# Altium schematic symbol library MCU_Microchip_ATmega.SchLib: 440 symbols (part 8 of 9)
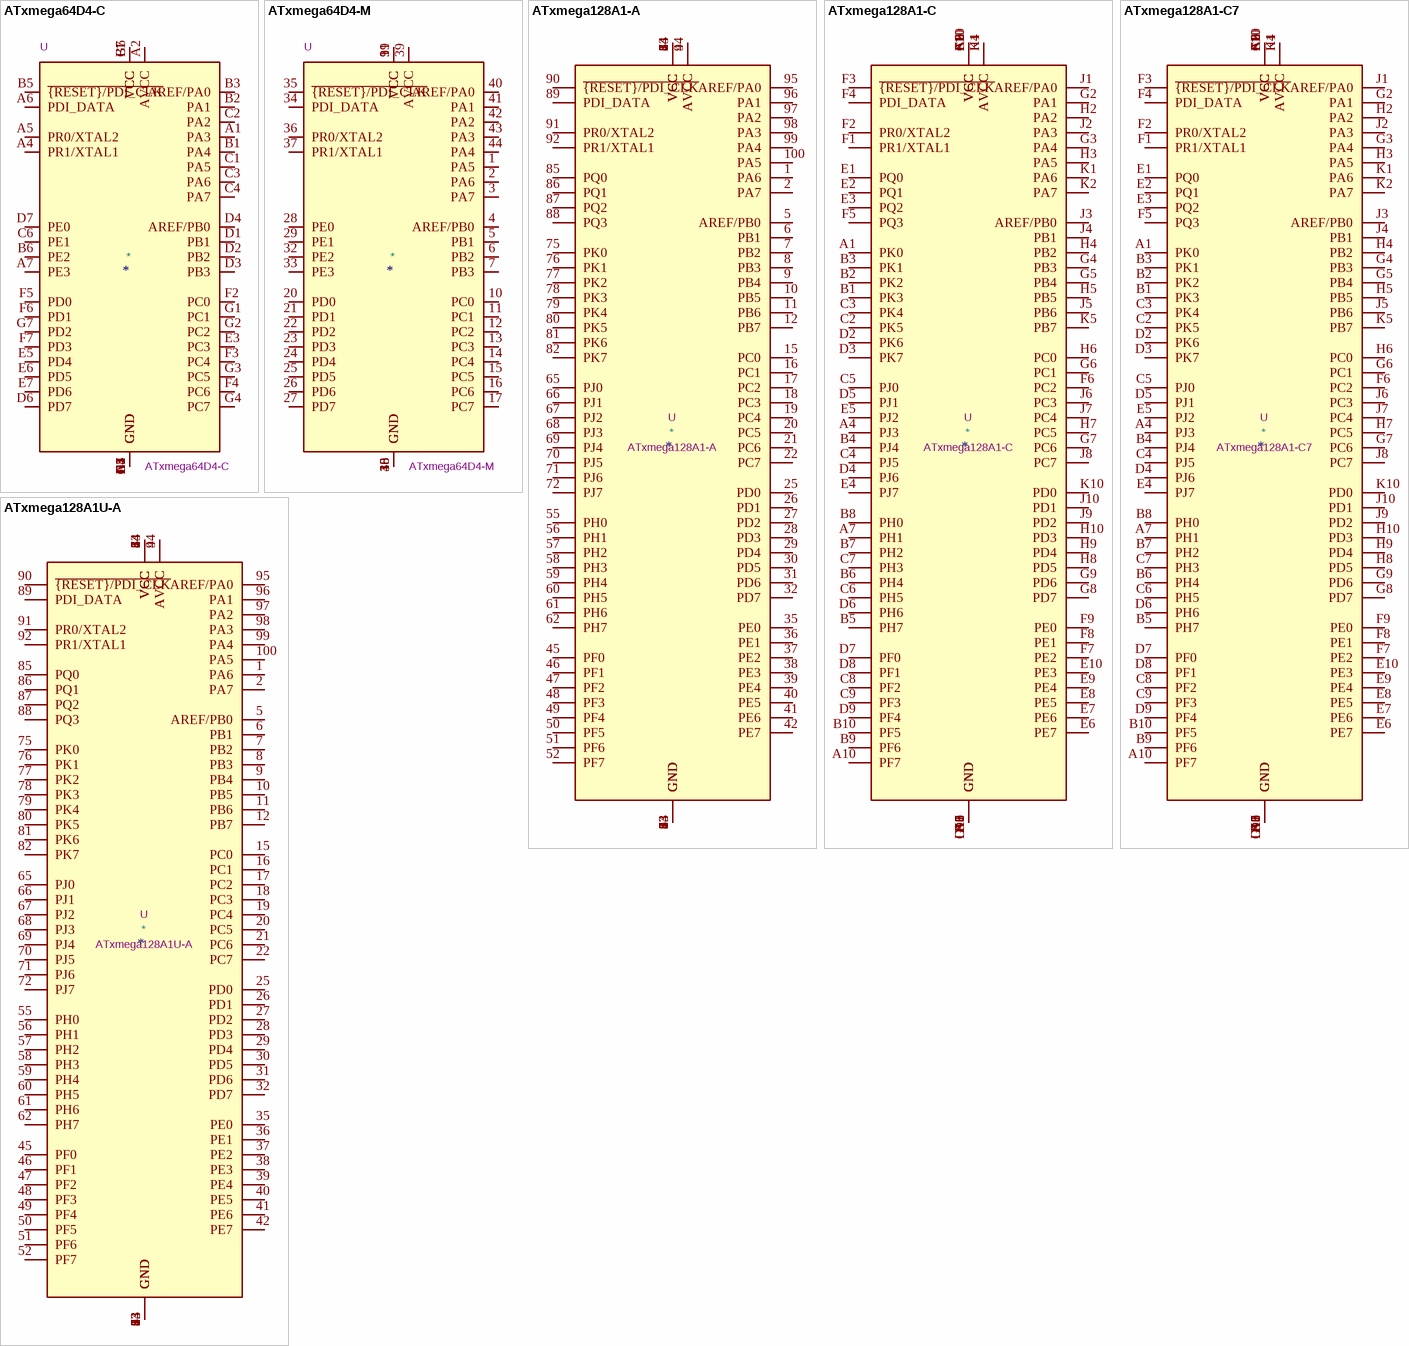
[diagram p47: symbols ATxmega64D4-C to ATxmega128A1U-A]

## ATxmega128A1-C7
designator *  value ATxmega128A1-C7  Reference: U
32MHz, 128kB Flash, 8kB Boot, 8kB SRAM, 2kB EEPROM, JTAG, VFBGA-100; ki_keywords: AVR 8/16bit Microcontroller XMegaAVR; ki_fp_filters: VFBGA*7.0x7.0mm*Layout10x10*P0.65mm*; Footprint: Package_BGA:VFBGA-100_7.0x7.0mm_Layout10x10_P0.65mm; Datasheet: http://ww1.microchip.com/downloads/en/DeviceDoc/Atmel-8067-8-and-16-bit-AVR-Microcontrollers-ATxmega64A1-ATxmega128A1_Datasheet.pdf; Description_: 32MHz, 128kB Flash, 8kB Boot, 8kB SRAM, 2kB EEPROM, JTAG, VFBGA-100
pins: A1 PK0, A2 VCC, A3 GND, A4 PJ3, A5 VCC, A6 GND, A7 PH1, A8 GND, A9 VCC, A10 PF7, B1 PK3, B2 PK2, B3 PK1, B4 PJ4, B5 PH7, B6 PH4, B7 PH2, B8 PH0, B9 PF6, B10 PF5, C1 VCC, C2 PK5, C3 PK4, C4 PJ5, C5 PJ0, C6 PH5, C7 PH3, C8 PF2, C9 PF3, C10 VCC, D1 GND, D2 PK6, D3 PK7, D4 PJ6, D5 PJ1, D6 PH6, D7 PF0, D8 PF1, D9 PF4, D10 GND, E1 PQ0, E2 PQ1, E3 PQ2, E4 PJ7, E5 PJ2, E6 PE7, E7 PE6, E8 PE5, E9 PE4, E10 PE3, F1 PR1/XTAL1, F2 PR0/XTAL2, F3 ~{{RESET}/PDI_CLK}, F4 PDI_DATA, F5 PQ3, F6 PC2, F7 PE2, F8 PE1, F9 PE0, F10 VCC, G1 GND, G2 PA1, G3 PA4, G4 PB3, G5 PB4, G6 PC1, G7 PC6, G8 PD7, G9 PD6, G10 GND, H1 AVCC, H2 PA2, H3 PA5, H4 PB2, H5 PB5, H6 PC0, H7 PC5, H8 PD5, H9 PD4, H10 PD3, J1 AREF/PA0, J2 PA3, J3 AREF/PB0, J4 PB1, J5 PB6, J6 PC3, J7 PC4, J8 PC7, J9 PD2, J10 PD1, K1 PA6, K2 PA7, K3 GND, K4 AVCC, K5 PB7, K6 VCC, K7 GND, K8 VCC, K9 GND, K10 PD0

## ATxmega128A1U-A
designator *  value ATxmega128A1U-A  Reference: U
32MHz, 128kB Flash, 8kB Boot, 8kB SRAM, 2kB EEPROM, JTAG, USB, TQFP-100; ki_keywords: AVR 8/16bit Microcontroller XMegaAVR; ki_fp_filters: TQFP*14x14mm*P0.5mm*; Footprint: Package_QFP:TQFP-100_14x14mm_P0.5mm; Datasheet: http://ww1.microchip.com/downloads/en/DeviceDoc/Atmel-8385-8-and-16-bit-AVR-Microcontroller-ATxmega64A1U-ATxmega128A1U_datasheet.pdf; Description_: 32MHz, 128kB Flash, 8kB Boot, 8kB SRAM, 2kB EEPROM, JTAG, USB, TQFP-100
pins: 1 PA6, 2 PA7, 3 GND, 4 AVCC, 5 AREF/PB0, 6 PB1, 7 PB2, 8 PB3, 9 PB4, 10 PB5, 11 PB6, 12 PB7, 13 GND, 14 VCC, 15 PC0, 16 PC1, 17 PC2, 18 PC3, 19 PC4, 20 PC5, 21 PC6, 22 PC7, 23 GND, 24 VCC, 25 PD0, 26 PD1, 27 PD2, 28 PD3, 29 PD4, 30 PD5, 31 PD6, 32 PD7, 33 GND, 34 VCC, 35 PE0, 36 PE1, 37 PE2, 38 PE3, 39 PE4, 40 PE5, 41 PE6, 42 PE7, 43 GND, 44 VCC, 45 PF0, 46 PF1, 47 PF2, 48 PF3, 49 PF4, 50 PF5, 51 PF6, 52 PF7, 53 GND, 54 VCC, 55 PH0, 56 PH1, 57 PH2, 58 PH3, 59 PH4, 60 PH5, 61 PH6, 62 PH7, 63 GND, 64 VCC, 65 PJ0, 66 PJ1, 67 PJ2, 68 PJ3, 69 PJ4, 70 PJ5, 71 PJ6, 72 PJ7, 73 GND, 74 VCC, 75 PK0, 76 PK1, 77 PK2, 78 PK3, 79 PK4, 80 PK5, 81 PK6, 82 PK7, 83 VCC, 84 GND, 85 PQ0, 86 PQ1, 87 PQ2, 88 PQ3, 89 PDI_DATA, 90 ~{{RESET}/PDI_CLK}, 91 PR0/XTAL2, 92 PR1/XTAL1, 93 GND, 94 AVCC, 95 AREF/PA0, 96 PA1, 97 PA2, 98 PA3, 99 PA4, 100 PA5

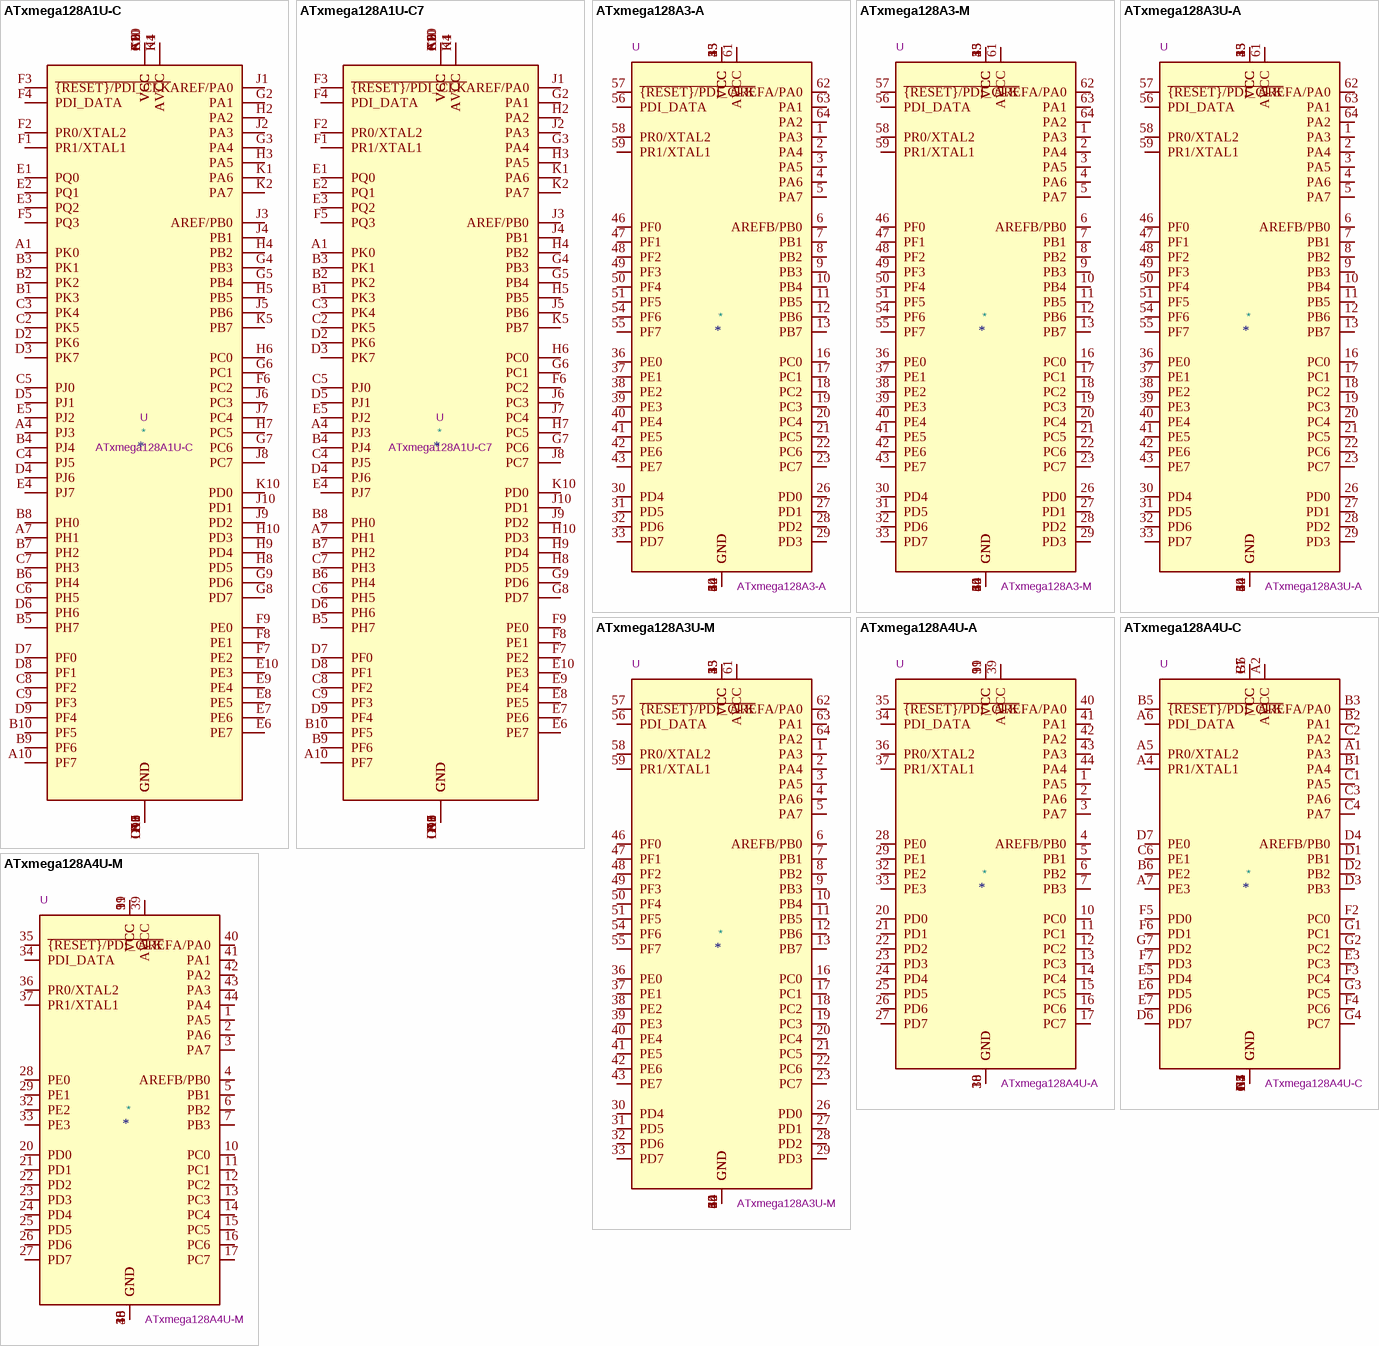
[diagram p36: symbols ATxmega128A1U-C to ATxmega128A4U-M]

## ATxmega128A1U-C
designator *  value ATxmega128A1U-C  Reference: U
32MHz, 128kB Flash, 8kB Boot, 8kB SRAM, 2kB EEPROM, JTAG, USB, TFBGA-100; ki_keywords: AVR 8/16bit Microcontroller XMegaAVR; ki_fp_filters: TFBGA*9.0x9.0mm*Layout10x10*P0.8mm*; Footprint: Package_BGA:TFBGA-100_9.0x9.0mm_Layout10x10_P0.8mm; Datasheet: http://ww1.microchip.com/downloads/en/DeviceDoc/Atmel-8385-8-and-16-bit-AVR-Microcontroller-ATxmega64A1U-ATxmega128A1U_datasheet.pdf; Description_: 32MHz, 128kB Flash, 8kB Boot, 8kB SRAM, 2kB EEPROM, JTAG, USB, TFBGA-100
pins: A1 PK0, A2 VCC, A3 GND, A4 PJ3, A5 VCC, A6 GND, A7 PH1, A8 GND, A9 VCC, A10 PF7, B1 PK3, B2 PK2, B3 PK1, B4 PJ4, B5 PH7, B6 PH4, B7 PH2, B8 PH0, B9 PF6, B10 PF5, C1 VCC, C2 PK5, C3 PK4, C4 PJ5, C5 PJ0, C6 PH5, C7 PH3, C8 PF2, C9 PF3, C10 VCC, D1 GND, D2 PK6, D3 PK7, D4 PJ6, D5 PJ1, D6 PH6, D7 PF0, D8 PF1, D9 PF4, D10 GND, E1 PQ0, E2 PQ1, E3 PQ2, E4 PJ7, E5 PJ2, E6 PE7, E7 PE6, E8 PE5, E9 PE4, E10 PE3, F1 PR1/XTAL1, F2 PR0/XTAL2, F3 ~{{RESET}/PDI_CLK}, F4 PDI_DATA, F5 PQ3, F6 PC2, F7 PE2, F8 PE1, F9 PE0, F10 VCC, G1 GND, G2 PA1, G3 PA4, G4 PB3, G5 PB4, G6 PC1, G7 PC6, G8 PD7, G9 PD6, G10 GND, H1 AVCC, H2 PA2, H3 PA5, H4 PB2, H5 PB5, H6 PC0, H7 PC5, H8 PD5, H9 PD4, H10 PD3, J1 AREF/PA0, J2 PA3, J3 AREF/PB0, J4 PB1, J5 PB6, J6 PC3, J7 PC4, J8 PC7, J9 PD2, J10 PD1, K1 PA6, K2 PA7, K3 GND, K4 AVCC, K5 PB7, K6 VCC, K7 GND, K8 VCC, K9 GND, K10 PD0

## ATxmega128A1U-C7
designator *  value ATxmega128A1U-C7  Reference: U
32MHz, 128kB Flash, 8kB Boot, 8kB SRAM, 2kB EEPROM, JTAG, USB, VFBGA-100; ki_keywords: AVR 8/16bit Microcontroller XMegaAVR; ki_fp_filters: VFBGA*7.0x7.0mm*Layout10x10*P0.65mm*; Footprint: Package_BGA:VFBGA-100_7.0x7.0mm_Layout10x10_P0.65mm; Datasheet: http://ww1.microchip.com/downloads/en/DeviceDoc/Atmel-8385-8-and-16-bit-AVR-Microcontroller-ATxmega64A1U-ATxmega128A1U_datasheet.pdf; Description_: 32MHz, 128kB Flash, 8kB Boot, 8kB SRAM, 2kB EEPROM, JTAG, USB, VFBGA-100
pins: A1 PK0, A2 VCC, A3 GND, A4 PJ3, A5 VCC, A6 GND, A7 PH1, A8 GND, A9 VCC, A10 PF7, B1 PK3, B2 PK2, B3 PK1, B4 PJ4, B5 PH7, B6 PH4, B7 PH2, B8 PH0, B9 PF6, B10 PF5, C1 VCC, C2 PK5, C3 PK4, C4 PJ5, C5 PJ0, C6 PH5, C7 PH3, C8 PF2, C9 PF3, C10 VCC, D1 GND, D2 PK6, D3 PK7, D4 PJ6, D5 PJ1, D6 PH6, D7 PF0, D8 PF1, D9 PF4, D10 GND, E1 PQ0, E2 PQ1, E3 PQ2, E4 PJ7, E5 PJ2, E6 PE7, E7 PE6, E8 PE5, E9 PE4, E10 PE3, F1 PR1/XTAL1, F2 PR0/XTAL2, F3 ~{{RESET}/PDI_CLK}, F4 PDI_DATA, F5 PQ3, F6 PC2, F7 PE2, F8 PE1, F9 PE0, F10 VCC, G1 GND, G2 PA1, G3 PA4, G4 PB3, G5 PB4, G6 PC1, G7 PC6, G8 PD7, G9 PD6, G10 GND, H1 AVCC, H2 PA2, H3 PA5, H4 PB2, H5 PB5, H6 PC0, H7 PC5, H8 PD5, H9 PD4, H10 PD3, J1 AREF/PA0, J2 PA3, J3 AREF/PB0, J4 PB1, J5 PB6, J6 PC3, J7 PC4, J8 PC7, J9 PD2, J10 PD1, K1 PA6, K2 PA7, K3 GND, K4 AVCC, K5 PB7, K6 VCC, K7 GND, K8 VCC, K9 GND, K10 PD0

## ATxmega128A3-A
designator *  value ATxmega128A3-A  Reference: U
32MHz, 128kB Flash, 8kB Boot, 8kB SRAM, 2kB EEPROM, JTAG, TQFP-64; ki_keywords: AVR 8/16bit Microcontroller XMegaAVR; ki_fp_filters: TQFP*14x14mm*P0.8mm*; Footprint: Package_QFP:TQFP-64_14x14mm_P0.8mm; Datasheet: http://ww1.microchip.com/downloads/en/DeviceDoc/Atmel-8068-8-and16-bit-AVR-XMEGA-A3-Microcontrollers_Datasheet.pdf; Description_: 32MHz, 128kB Flash, 8kB Boot, 8kB SRAM, 2kB EEPROM, JTAG, TQFP-64
pins: 1 PA3, 2 PA4, 3 PA5, 4 PA6, 5 PA7, 6 AREFB/PB0, 7 PB1, 8 PB2, 9 PB3, 10 PB4, 11 PB5, 12 PB6, 13 PB7, 14 GND, 15 VCC, 16 PC0, 17 PC1, 18 PC2, 19 PC3, 20 PC4, 21 PC5, 22 PC6, 23 PC7, 24 GND, 25 VCC, 26 PD0, 27 PD1, 28 PD2, 29 PD3, 30 PD4, 31 PD5, 32 PD6, 33 PD7, 34 GND, 35 VCC, 36 PE0, 37 PE1, 38 PE2, 39 PE3, 40 PE4, 41 PE5, 42 PE6, 43 PE7, 44 GND, 45 VCC, 46 PF0, 47 PF1, 48 PF2, 49 PF3, 50 PF4, 51 PF5, 52 GND, 53 VCC, 54 PF6, 55 PF7, 56 PDI_DATA, 57 ~{{RESET}/PDI_CLK}, 58 PR0/XTAL2, 59 PR1/XTAL1, 60 GND, 61 AVCC, 62 AREFA/PA0, 63 PA1, 64 PA2

## ATxmega128A3-M
designator *  value ATxmega128A3-M  Reference: U
32MHz, 128kB Flash, 8kB Boot, 8kB SRAM, 2kB EEPROM, JTAG, QFN-64; ki_keywords: AVR 8/16bit Microcontroller XMegaAVR; ki_fp_filters: QFN*1EP*9x9mm*P0.5mm*; Footprint: Package_DFN_QFN:QFN-64-1EP_9x9mm_P0.5mm_EP7.65x7.65mm; Datasheet: http://ww1.microchip.com/downloads/en/DeviceDoc/Atmel-8068-8-and16-bit-AVR-XMEGA-A3-Microcontrollers_Datasheet.pdf; Description_: 32MHz, 128kB Flash, 8kB Boot, 8kB SRAM, 2kB EEPROM, JTAG, QFN-64
pins: 1 PA3, 2 PA4, 3 PA5, 4 PA6, 5 PA7, 6 AREFB/PB0, 7 PB1, 8 PB2, 9 PB3, 10 PB4, 11 PB5, 12 PB6, 13 PB7, 14 GND, 15 VCC, 16 PC0, 17 PC1, 18 PC2, 19 PC3, 20 PC4, 21 PC5, 22 PC6, 23 PC7, 24 GND, 25 VCC, 26 PD0, 27 PD1, 28 PD2, 29 PD3, 30 PD4, 31 PD5, 32 PD6, 33 PD7, 34 GND, 35 VCC, 36 PE0, 37 PE1, 38 PE2, 39 PE3, 40 PE4, 41 PE5, 42 PE6, 43 PE7, 44 GND, 45 VCC, 46 PF0, 47 PF1, 48 PF2, 49 PF3, 50 PF4, 51 PF5, 52 GND, 53 VCC, 54 PF6, 55 PF7, 56 PDI_DATA, 57 ~{{RESET}/PDI_CLK}, 58 PR0/XTAL2, 59 PR1/XTAL1, 60 GND, 61 AVCC, 62 AREFA/PA0, 63 PA1, 64 PA2, 65 GND

## ATxmega128A3U-A
designator *  value ATxmega128A3U-A  Reference: U
32MHz, 128kB Flash, 8kB Boot, 8kB SRAM, 2kB EEPROM, JTAG, USB, TQFP-64; ki_keywords: AVR 8/16bit Microcontroller XMegaAVR; ki_fp_filters: TQFP*14x14mm*P0.8mm*; Footprint: Package_QFP:TQFP-64_14x14mm_P0.8mm; Datasheet: http://ww1.microchip.com/downloads/en/DeviceDoc/Atmel-8386-8-and-16-bit-AVR-Microcontroller-ATxmega64A3U-128A3U-192A3U-256A3U_datasheet.pdf; Description_: 32MHz, 128kB Flash, 8kB Boot, 8kB SRAM, 2kB EEPROM, JTAG, USB, TQFP-64
pins: 1 PA3, 2 PA4, 3 PA5, 4 PA6, 5 PA7, 6 AREFB/PB0, 7 PB1, 8 PB2, 9 PB3, 10 PB4, 11 PB5, 12 PB6, 13 PB7, 14 GND, 15 VCC, 16 PC0, 17 PC1, 18 PC2, 19 PC3, 20 PC4, 21 PC5, 22 PC6, 23 PC7, 24 GND, 25 VCC, 26 PD0, 27 PD1, 28 PD2, 29 PD3, 30 PD4, 31 PD5, 32 PD6, 33 PD7, 34 GND, 35 VCC, 36 PE0, 37 PE1, 38 PE2, 39 PE3, 40 PE4, 41 PE5, 42 PE6, 43 PE7, 44 GND, 45 VCC, 46 PF0, 47 PF1, 48 PF2, 49 PF3, 50 PF4, 51 PF5, 52 GND, 53 VCC, 54 PF6, 55 PF7, 56 PDI_DATA, 57 ~{{RESET}/PDI_CLK}, 58 PR0/XTAL2, 59 PR1/XTAL1, 60 GND, 61 AVCC, 62 AREFA/PA0, 63 PA1, 64 PA2

## ATxmega128A3U-M
designator *  value ATxmega128A3U-M  Reference: U
32MHz, 128kB Flash, 8kB Boot, 8kB SRAM, 2kB EEPROM, JTAG, USB, QFN-64; ki_keywords: AVR 8/16bit Microcontroller XMegaAVR; ki_fp_filters: QFN*1EP*9x9mm*P0.5mm*; Footprint: Package_DFN_QFN:QFN-64-1EP_9x9mm_P0.5mm_EP7.65x7.65mm; Datasheet: http://ww1.microchip.com/downloads/en/DeviceDoc/Atmel-8386-8-and-16-bit-AVR-Microcontroller-ATxmega64A3U-128A3U-192A3U-256A3U_datasheet.pdf; Description_: 32MHz, 128kB Flash, 8kB Boot, 8kB SRAM, 2kB EEPROM, JTAG, USB, QFN-64
pins: 1 PA3, 2 PA4, 3 PA5, 4 PA6, 5 PA7, 6 AREFB/PB0, 7 PB1, 8 PB2, 9 PB3, 10 PB4, 11 PB5, 12 PB6, 13 PB7, 14 GND, 15 VCC, 16 PC0, 17 PC1, 18 PC2, 19 PC3, 20 PC4, 21 PC5, 22 PC6, 23 PC7, 24 GND, 25 VCC, 26 PD0, 27 PD1, 28 PD2, 29 PD3, 30 PD4, 31 PD5, 32 PD6, 33 PD7, 34 GND, 35 VCC, 36 PE0, 37 PE1, 38 PE2, 39 PE3, 40 PE4, 41 PE5, 42 PE6, 43 PE7, 44 GND, 45 VCC, 46 PF0, 47 PF1, 48 PF2, 49 PF3, 50 PF4, 51 PF5, 52 GND, 53 VCC, 54 PF6, 55 PF7, 56 PDI_DATA, 57 ~{{RESET}/PDI_CLK}, 58 PR0/XTAL2, 59 PR1/XTAL1, 60 GND, 61 AVCC, 62 AREFA/PA0, 63 PA1, 64 PA2, 65 GND

## ATxmega128A4U-A
designator *  value ATxmega128A4U-A  Reference: U
32MHz, 128kB Flash, 8kB Boot, 8kB SRAM, 2kB EEPROM, JTAG, USB, TQFP-44; ki_keywords: AVR 8/16bit Microcontroller XMegaAVR; ki_fp_filters: TQFP*10x10mm*P0.8mm*; Footprint: Package_QFP:TQFP-44_10x10mm_P0.8mm; Datasheet: http://ww1.microchip.com/downloads/en/DeviceDoc/Atmel-8387-8-and16-bit-AVR-Microcontroller-XMEGA-A4U_Datasheet.pdf; Description_: 32MHz, 128kB Flash, 8kB Boot, 8kB SRAM, 2kB EEPROM, JTAG, USB, TQFP-44
pins: 1 PA5, 2 PA6, 3 PA7, 4 AREFB/PB0, 5 PB1, 6 PB2, 7 PB3, 8 GND, 9 VCC, 10 PC0, 11 PC1, 12 PC2, 13 PC3, 14 PC4, 15 PC5, 16 PC6, 17 PC7, 18 GND, 19 VCC, 20 PD0, 21 PD1, 22 PD2, 23 PD3, 24 PD4, 25 PD5, 26 PD6, 27 PD7, 28 PE0, 29 PE1, 30 GND, 31 VCC, 32 PE2, 33 PE3, 34 PDI_DATA, 35 ~{{RESET}/PDI_CLK}, 36 PR0/XTAL2, 37 PR1/XTAL1, 38 GND, 39 AVCC, 40 AREFA/PA0, 41 PA1, 42 PA2, 43 PA3, 44 PA4

## ATxmega128A4U-C
designator *  value ATxmega128A4U-C  Reference: U
32MHz, 128kB Flash, 8kB Boot, 8kB SRAM, 2kB EEPROM, JTAG, USB, VFBGA-49; ki_keywords: AVR 8/16bit Microcontroller XMegaAVR; ki_fp_filters: VFBGA*5.0x5.0mm*Layout7x7*P0.65mm*; Footprint: Package_BGA:VFBGA-49_5.0x5.0mm_Layout7x7_P0.65mm; Datasheet: http://ww1.microchip.com/downloads/en/DeviceDoc/Atmel-8387-8-and16-bit-AVR-Microcontroller-XMEGA-A4U_Datasheet.pdf; Description_: 32MHz, 128kB Flash, 8kB Boot, 8kB SRAM, 2kB EEPROM, JTAG, USB, VFBGA-49
pins: A1 PA3, A2 AVCC, A3 GND, A4 PR1/XTAL1, A5 PR0/XTAL2, A6 PDI_DATA, A7 PE3, B1 PA4, B2 PA1, B3 AREFA/PA0, B4 GND, B5 ~{{RESET}/PDI_CLK}, B6 PE2, B7 VCC, C1 PA5, C2 PA2, C3 PA6, C4 PA7, C5 GND, C6 PE1, C7 GND, D1 PB1, D2 PB2, D3 PB3, D4 AREFB/PB0, D5 GND, D6 PD7, D7 PE0, E1 GND, E2 GND, E3 PC3, E4 GND, E5 PD4, E6 PD5, E7 PD6, F1 VCC, F2 PC0, F3 PC4, F4 PC6, F5 PD0, F6 PD1, F7 PD3, G1 PC1, G2 PC2, G3 PC5, G4 PC7, G5 GND, G6 VCC, G7 PD2

## ATxmega128A4U-M
designator *  value ATxmega128A4U-M  Reference: U
32MHz, 128kB Flash, 8kB Boot, 8kB SRAM, 2kB EEPROM, JTAG, USB, QFN-44; ki_keywords: AVR 8/16bit Microcontroller XMegaAVR; ki_fp_filters: QFN*1EP*7x7mm*P0.5mm*; Footprint: Package_DFN_QFN:QFN-44-1EP_7x7mm_P0.5mm_EP5.2x5.2mm; Datasheet: http://ww1.microchip.com/downloads/en/DeviceDoc/Atmel-8387-8-and16-bit-AVR-Microcontroller-XMEGA-A4U_Datasheet.pdf; Description_: 32MHz, 128kB Flash, 8kB Boot, 8kB SRAM, 2kB EEPROM, JTAG, USB, QFN-44
pins: 1 PA5, 2 PA6, 3 PA7, 4 AREFB/PB0, 5 PB1, 6 PB2, 7 PB3, 8 GND, 9 VCC, 10 PC0, 11 PC1, 12 PC2, 13 PC3, 14 PC4, 15 PC5, 16 PC6, 17 PC7, 18 GND, 19 VCC, 20 PD0, 21 PD1, 22 PD2, 23 PD3, 24 PD4, 25 PD5, 26 PD6, 27 PD7, 28 PE0, 29 PE1, 30 GND, 31 VCC, 32 PE2, 33 PE3, 34 PDI_DATA, 35 ~{{RESET}/PDI_CLK}, 36 PR0/XTAL2, 37 PR1/XTAL1, 38 GND, 39 AVCC, 40 AREFA/PA0, 41 PA1, 42 PA2, 43 PA3, 44 PA4, 45 GND

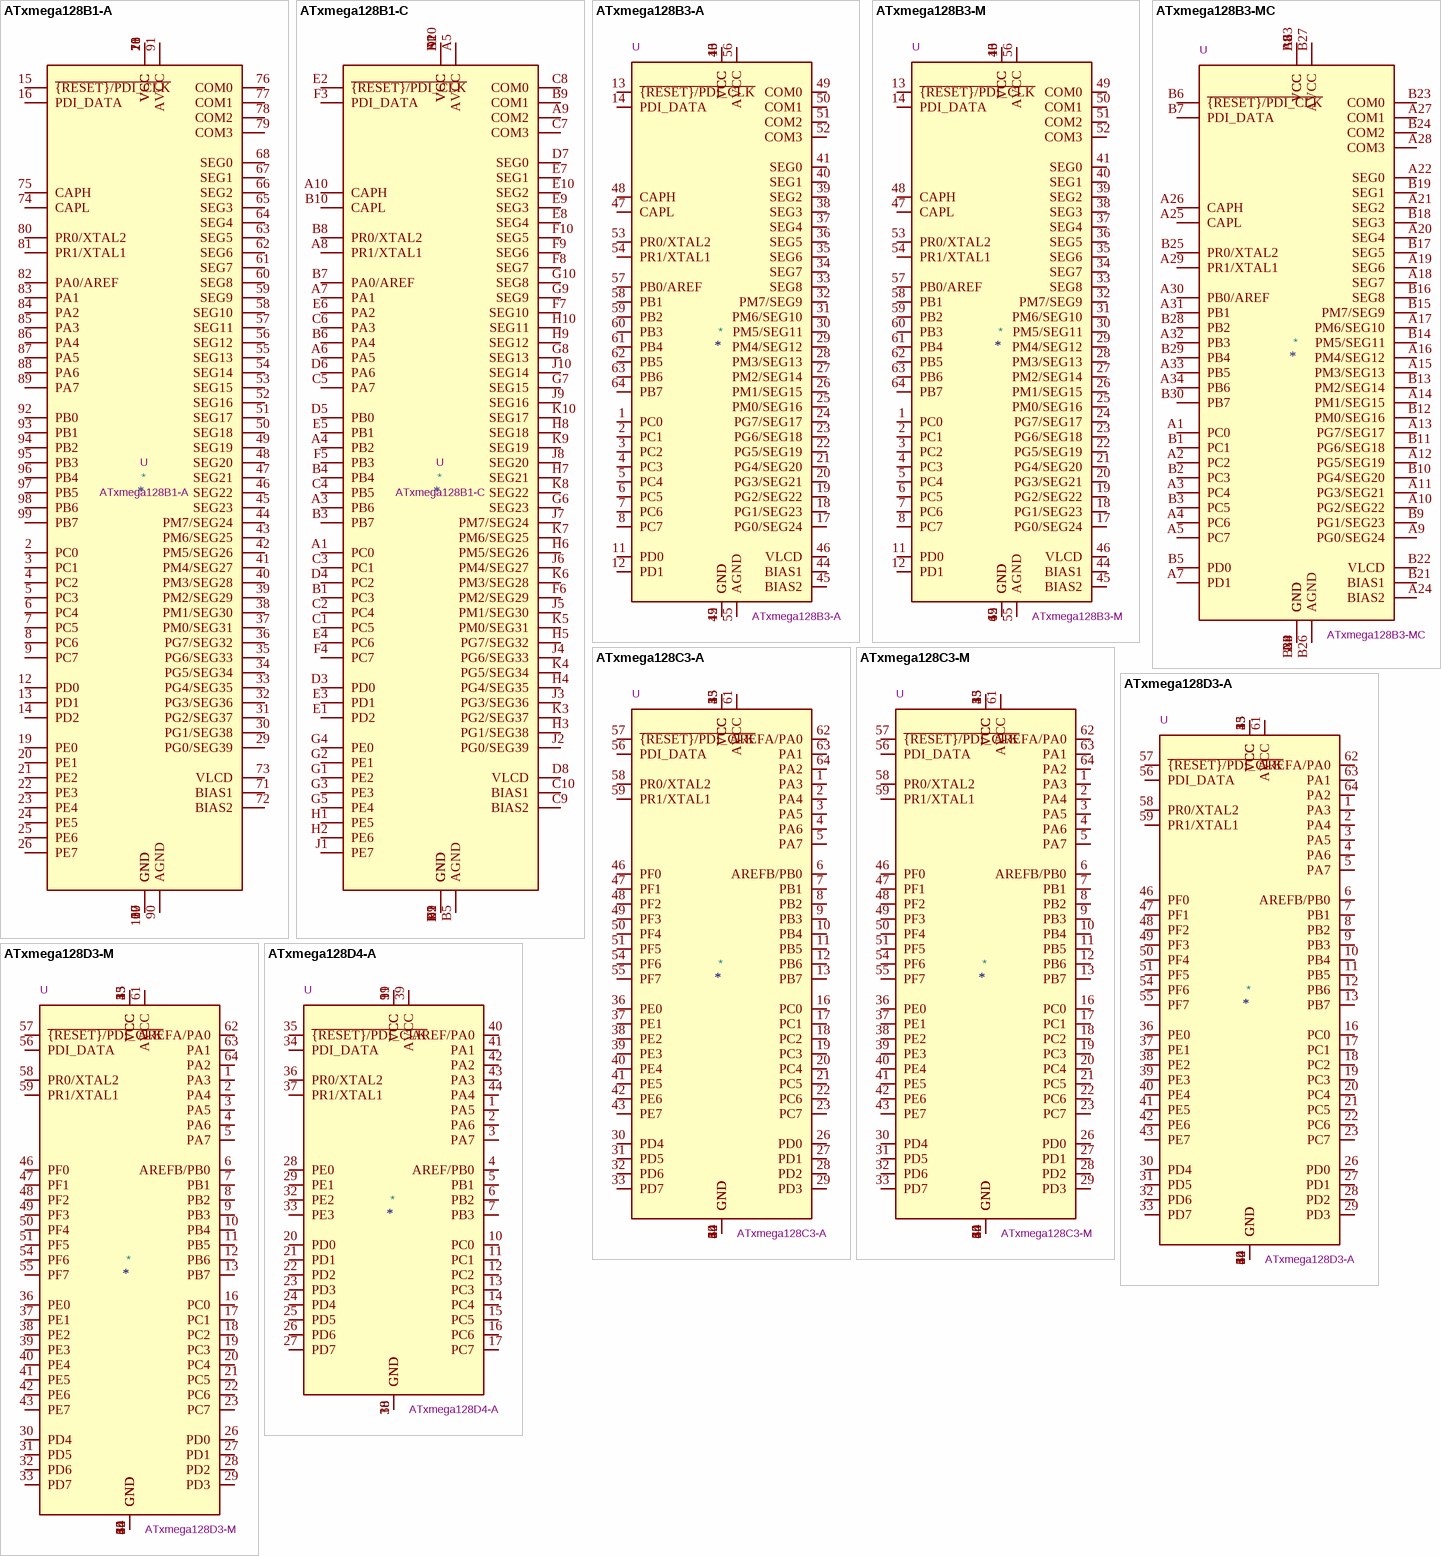
[diagram p37: symbols ATxmega128B1-A to ATxmega128D4-A]

## ATxmega128B1-A
designator *  value ATxmega128B1-A  Reference: U
32MHz, 128kB Flash, 8kB Boot, 8kB SRAM, 2kB EEPROM, JTAG, USB, LCD, TQFP-100; ki_keywords: AVR 8/16bit Microcontroller XMegaAVR; ki_fp_filters: TQFP*14x14mm*P0.5mm*; Footprint: Package_QFP:TQFP-100_14x14mm_P0.5mm; Datasheet: http://ww1.microchip.com/downloads/en/DeviceDoc/Atmel-8330-8-and-16-bit-AVR-Microcontroller-XMEGA-B-ATxmega64B1-ATxmega128B1_Datasheet.pdf; Description_: 32MHz, 128kB Flash, 8kB Boot, 8kB SRAM, 2kB EEPROM, JTAG, USB, LCD, TQFP-100
pins: 1 VCC, 2 PC0, 3 PC1, 4 PC2, 5 PC3, 6 PC4, 7 PC5, 8 PC6, 9 PC7, 10 GND, 11 VCC, 12 PD0, 13 PD1, 14 PD2, 15 ~{{RESET}/PDI_CLK}, 16 PDI_DATA, 17 GND, 18 VCC, 19 PE0, 20 PE1, 21 PE2, 22 PE3, 23 PE4, 24 PE5, 25 PE6, 26 PE7, 27 GND, 28 VCC, 29 PG0/SEG39, 30 PG1/SEG38, 31 PG2/SEG37, 32 PG3/SEG36, 33 PG4/SEG35, 34 PG5/SEG34, 35 PG6/SEG33, 36 PG7/SEG32, 37 PM0/SEG31, 38 PM1/SEG30, 39 PM2/SEG29, 40 PM3/SEG28, 41 PM4/SEG27, 42 PM5/SEG26, 43 PM6/SEG25, 44 PM7/SEG24, 45 SEG23, 46 SEG22, 47 SEG21, 48 SEG20, 49 SEG19, 50 SEG18, 51 SEG17, 52 SEG16, 53 SEG15, 54 SEG14, 55 SEG13, 56 SEG12, 57 SEG11, 58 SEG10, 59 SEG9, 60 SEG8, 61 SEG7, 62 SEG6, 63 SEG5, 64 SEG4, 65 SEG3, 66 SEG2, 67 SEG1, 68 SEG0, 69 GND, 70 VCC, 71 BIAS1, 72 BIAS2, 73 VLCD, 74 CAPL, 75 CAPH, 76 COM0, 77 COM1, 78 COM2, 79 COM3, 80 PR0/XTAL2, 81 PR1/XTAL1, 82 PA0/AREF, 83 PA1, 84 PA2, 85 PA3, 86 PA4, 87 PA5, 88 PA6, 89 PA7, 90 AGND, 91 AVCC, 92 PB0, 93 PB1, 94 PB2, 95 PB3, 96 PB4, 97 PB5, 98 PB6, 99 PB7, 100 GND

## ATxmega128B1-C
designator *  value ATxmega128B1-C  Reference: U
32MHz, 128kB Flash, 8kB Boot, 8kB SRAM, 2kB EEPROM, JTAG, USB, LCD, VFBGA-100; ki_keywords: AVR 8/16bit Microcontroller XMegaAVR; ki_fp_filters: VFBGA*7.0x7.0mm*Layout10x10*P0.65mm*; Footprint: Package_BGA:VFBGA-100_7.0x7.0mm_Layout10x10_P0.65mm; Datasheet: http://ww1.microchip.com/downloads/en/DeviceDoc/Atmel-8330-8-and-16-bit-AVR-Microcontroller-XMEGA-B-ATxmega64B1-ATxmega128B1_Datasheet.pdf; Description_: 32MHz, 128kB Flash, 8kB Boot, 8kB SRAM, 2kB EEPROM, JTAG, USB, LCD, VFBGA-100
pins: A1 PC0, A2 VCC, A3 PB6, A4 PB2, A5 AVCC, A6 PA5, A7 PA1, A8 PR1/XTAL1, A9 COM2, A10 CAPH, B1 PC3, B2 GND, B3 PB7, B4 PB4, B5 AGND, B6 PA4, B7 PA0/AREF, B8 PR0/XTAL2, B9 COM1, B10 CAPL, C1 PC5, C2 PC4, C3 PC1, C4 PB5, C5 PA7, C6 PA3, C7 COM3, C8 COM0, C9 BIAS2, C10 BIAS1, D1 VCC, D2 GND, D3 PD0, D4 PC2, D5 PB0, D6 PA6, D7 SEG0, D8 VLCD, D9 GND, D10 VCC, E1 PD2, E2 ~{{RESET}/PDI_CLK}, E3 PD1, E4 PC6, E5 PB1, E6 PA2, E7 SEG1, E8 SEG4, E9 SEG3, E10 SEG2, F1 VCC, F2 GND, F3 PDI_DATA, F4 PC7, F5 PB3, F6 PM2/SEG29, F7 SEG10, F8 SEG7, F9 SEG6, F10 SEG5, G1 PE2, G2 PE1, G3 PE3, G4 PE0, G5 PE4, G6 SEG23, G7 SEG15, G8 SEG13, G9 SEG9, G10 SEG8, H1 PE5, H2 PE6, H3 PG1/SEG38, H4 PG4/SEG35, H5 PG7/SEG32, H6 PM5/SEG26, H7 SEG21, H8 SEG18, H9 SEG12, H10 SEG11, J1 PE7, J2 PG0/SEG39, J3 PG3/SEG36, J4 PG6/SEG33, J5 PM1/SEG30, J6 PM4/SEG27, J7 PM7/SEG24, J8 SEG20, J9 SEG16, J10 SEG14, K1 GND, K2 VCC, K3 PG2/SEG37, K4 PG5/SEG34, K5 PM0/SEG31, K6 PM3/SEG28, K7 PM6/SEG25, K8 SEG22, K9 SEG19, K10 SEG17

## ATxmega128B3-A
designator *  value ATxmega128B3-A  Reference: U
32MHz, 128kB Flash, 8kB Boot, 8kB SRAM, 2kB EEPROM, JTAG, USB, LCD, TQFP-64; ki_keywords: AVR 8/16bit Microcontroller XMegaAVR; ki_fp_filters: TQFP*14x14mm*P0.8mm*; Footprint: Package_QFP:TQFP-64_14x14mm_P0.8mm; Datasheet: http://ww1.microchip.com/downloads/en/DeviceDoc/Atmel-8074-8-and-16-bit-AVR-Microcontroller-XMEGA-B-ATxmega64B3-ATxmega128B3_Datasheet.pdf; Description_: 32MHz, 128kB Flash, 8kB Boot, 8kB SRAM, 2kB EEPROM, JTAG, USB, LCD, TQFP-64
pins: 1 PC0, 2 PC1, 3 PC2, 4 PC3, 5 PC4, 6 PC5, 7 PC6, 8 PC7, 9 GND, 10 VCC, 11 PD0, 12 PD1, 13 ~{{RESET}/PDI_CLK}, 14 PDI_DATA, 15 GND, 16 VCC, 17 PG0/SEG24, 18 PG1/SEG23, 19 PG2/SEG22, 20 PG3/SEG21, 21 PG4/SEG20, 22 PG5/SEG19, 23 PG6/SEG18, 24 PG7/SEG17, 25 PM0/SEG16, 26 PM1/SEG15, 27 PM2/SEG14, 28 PM3/SEG13, 29 PM4/SEG12, 30 PM5/SEG11, 31 PM6/SEG10, 32 PM7/SEG9, 33 SEG8, 34 SEG7, 35 SEG6, 36 SEG5, 37 SEG4, 38 SEG3, 39 SEG2, 40 SEG1, 41 SEG0, 42 GND, 43 VCC, 44 BIAS1, 45 BIAS2, 46 VLCD, 47 CAPL, 48 CAPH, 49 COM0, 50 COM1, 51 COM2, 52 COM3, 53 PR0/XTAL2, 54 PR1/XTAL1, 55 AGND, 56 AVCC, 57 PB0/AREF, 58 PB1, 59 PB2, 60 PB3, 61 PB4, 62 PB5, 63 PB6, 64 PB7

## ATxmega128B3-M
designator *  value ATxmega128B3-M  Reference: U
32MHz, 128kB Flash, 8kB Boot, 8kB SRAM, 2kB EEPROM, JTAG, USB, LCD, QFN-64; ki_keywords: AVR 8/16bit Microcontroller XMegaAVR; ki_fp_filters: QFN*1EP*9x9mm*P0.5mm*; Footprint: Package_DFN_QFN:QFN-64-1EP_9x9mm_P0.5mm_EP7.65x7.65mm; Datasheet: http://ww1.microchip.com/downloads/en/DeviceDoc/Atmel-8074-8-and-16-bit-AVR-Microcontroller-XMEGA-B-ATxmega64B3-ATxmega128B3_Datasheet.pdf; Description_: 32MHz, 128kB Flash, 8kB Boot, 8kB SRAM, 2kB EEPROM, JTAG, USB, LCD, QFN-64
pins: 1 PC0, 2 PC1, 3 PC2, 4 PC3, 5 PC4, 6 PC5, 7 PC6, 8 PC7, 9 GND, 10 VCC, 11 PD0, 12 PD1, 13 ~{{RESET}/PDI_CLK}, 14 PDI_DATA, 15 GND, 16 VCC, 17 PG0/SEG24, 18 PG1/SEG23, 19 PG2/SEG22, 20 PG3/SEG21, 21 PG4/SEG20, 22 PG5/SEG19, 23 PG6/SEG18, 24 PG7/SEG17, 25 PM0/SEG16, 26 PM1/SEG15, 27 PM2/SEG14, 28 PM3/SEG13, 29 PM4/SEG12, 30 PM5/SEG11, 31 PM6/SEG10, 32 PM7/SEG9, 33 SEG8, 34 SEG7, 35 SEG6, 36 SEG5, 37 SEG4, 38 SEG3, 39 SEG2, 40 SEG1, 41 SEG0, 42 GND, 43 VCC, 44 BIAS1, 45 BIAS2, 46 VLCD, 47 CAPL, 48 CAPH, 49 COM0, 50 COM1, 51 COM2, 52 COM3, 53 PR0/XTAL2, 54 PR1/XTAL1, 55 AGND, 56 AVCC, 57 PB0/AREF, 58 PB1, 59 PB2, 60 PB3, 61 PB4, 62 PB5, 63 PB6, 64 PB7, 65 GND

## ATxmega128B3-MC
designator *  value ATxmega128B3-MC  Reference: U
32MHz, 128kB Flash, 8kB Boot, 8kB SRAM, 2kB EEPROM, JTAG, USB, LCD, DRQFN-64; ki_keywords: AVR 8/16bit Microcontroller XMegaAVR; ki_fp_filters: Microchip*DRQFN*1EP*7x7mm*P0.65mm*; Footprint: Package_DFN_QFN:Microchip_DRQFN-64-1EP_7x7mm_P0.65mm_EP4.1x4.1mm; Datasheet: http://ww1.microchip.com/downloads/en/DeviceDoc/Atmel-8074-8-and-16-bit-AVR-Microcontroller-XMEGA-B-ATxmega64B3-ATxmega128B3_Datasheet.pdf; Description_: 32MHz, 128kB Flash, 8kB Boot, 8kB SRAM, 2kB EEPROM, JTAG, USB, LCD, DRQFN-64
pins: A1 PC0, A2 PC2, A3 PC4, A4 PC6, A5 PC7, A6 VCC, A7 PD1, A8 GND, A9 PG0/SEG24, A10 PG2/SEG22, A11 PG3/SEG21, A12 PG5/SEG19, A13 PG7/SEG17, A14 PM1/SEG15, A15 PM3/SEG13, A16 PM4/SEG12, A17 PM6/SEG10, A18 SEG7, A19 SEG6, A20 SEG4, A21 SEG2, A22 SEG0, A23 VCC, A24 BIAS2, A25 CAPL, A26 CAPH, A27 COM1, A28 COM3, A29 PR1/XTAL1, A30 PB0/AREF, A31 PB1, A32 PB3, A33 PB5, A34 PB6, B1 PC1, B2 PC3, B3 PC5, B4 GND, B5 PD0, B6 ~{{RESET}/PDI_CLK}, B7 PDI_DATA, B8 VCC, B9 PG1/SEG23, B10 PG4/SEG20, B11 PG6/SEG18, B12 PM0/SEG16, B13 PM2/SEG14, B14 PM5/SEG11, B15 PM7/SEG9, B16 SEG8, B17 SEG5, B18 SEG3, B19 SEG1, B20 GND, B21 BIAS1, B22 VLCD, B23 COM0, B24 COM2, B25 PR0/XTAL2, B26 AGND, B27 AVCC, B28 PB2, B29 PB4, B30 PB7, EP GND

## ATxmega128C3-A
designator *  value ATxmega128C3-A  Reference: U
32MHz, 128kB Flash, 8kB Boot, 8kB SRAM, 2kB EEPROM, JTAG, USB, TQFP-64; ki_keywords: AVR 8/16bit Microcontroller XMegaAVR; ki_fp_filters: TQFP*14x14mm*P0.8mm*; Footprint: Package_QFP:TQFP-64_14x14mm_P0.8mm; Datasheet: http://ww1.microchip.com/downloads/en/DeviceDoc/Atmel-8492-8-and-16-bit-AVR-microcontroller-ATxmega32C3_64C3_128C3_192C3_256C3_datasheet.pdf; Description_: 32MHz, 128kB Flash, 8kB Boot, 8kB SRAM, 2kB EEPROM, JTAG, USB, TQFP-64
pins: 1 PA3, 2 PA4, 3 PA5, 4 PA6, 5 PA7, 6 AREFB/PB0, 7 PB1, 8 PB2, 9 PB3, 10 PB4, 11 PB5, 12 PB6, 13 PB7, 14 GND, 15 VCC, 16 PC0, 17 PC1, 18 PC2, 19 PC3, 20 PC4, 21 PC5, 22 PC6, 23 PC7, 24 GND, 25 VCC, 26 PD0, 27 PD1, 28 PD2, 29 PD3, 30 PD4, 31 PD5, 32 PD6, 33 PD7, 34 GND, 35 VCC, 36 PE0, 37 PE1, 38 PE2, 39 PE3, 40 PE4, 41 PE5, 42 PE6, 43 PE7, 44 GND, 45 VCC, 46 PF0, 47 PF1, 48 PF2, 49 PF3, 50 PF4, 51 PF5, 52 GND, 53 VCC, 54 PF6, 55 PF7, 56 PDI_DATA, 57 ~{{RESET}/PDI_CLK}, 58 PR0/XTAL2, 59 PR1/XTAL1, 60 GND, 61 AVCC, 62 AREFA/PA0, 63 PA1, 64 PA2

## ATxmega128C3-M
designator *  value ATxmega128C3-M  Reference: U
32MHz, 128kB Flash, 8kB Boot, 8kB SRAM, 2kB EEPROM, JTAG, USB, QFN-64; ki_keywords: AVR 8/16bit Microcontroller XMegaAVR; ki_fp_filters: QFN*1EP*9x9mm*P0.5mm*; Footprint: Package_DFN_QFN:QFN-64-1EP_9x9mm_P0.5mm_EP7.65x7.65mm; Datasheet: http://ww1.microchip.com/downloads/en/DeviceDoc/Atmel-8492-8-and-16-bit-AVR-microcontroller-ATxmega32C3_64C3_128C3_192C3_256C3_datasheet.pdf; Description_: 32MHz, 128kB Flash, 8kB Boot, 8kB SRAM, 2kB EEPROM, JTAG, USB, QFN-64
pins: 1 PA3, 2 PA4, 3 PA5, 4 PA6, 5 PA7, 6 AREFB/PB0, 7 PB1, 8 PB2, 9 PB3, 10 PB4, 11 PB5, 12 PB6, 13 PB7, 14 GND, 15 VCC, 16 PC0, 17 PC1, 18 PC2, 19 PC3, 20 PC4, 21 PC5, 22 PC6, 23 PC7, 24 GND, 25 VCC, 26 PD0, 27 PD1, 28 PD2, 29 PD3, 30 PD4, 31 PD5, 32 PD6, 33 PD7, 34 GND, 35 VCC, 36 PE0, 37 PE1, 38 PE2, 39 PE3, 40 PE4, 41 PE5, 42 PE6, 43 PE7, 44 GND, 45 VCC, 46 PF0, 47 PF1, 48 PF2, 49 PF3, 50 PF4, 51 PF5, 52 GND, 53 VCC, 54 PF6, 55 PF7, 56 PDI_DATA, 57 ~{{RESET}/PDI_CLK}, 58 PR0/XTAL2, 59 PR1/XTAL1, 60 GND, 61 AVCC, 62 AREFA/PA0, 63 PA1, 64 PA2, 65 GND

## ATxmega128D3-A
designator *  value ATxmega128D3-A  Reference: U
32MHz, 128kB Flash, 8kB Boot, 8kB SRAM, 2kB EEPROM, JTAG, TQFP-64; ki_keywords: AVR 8/16bit Microcontroller XMegaAVR; ki_fp_filters: TQFP*14x14mm*P0.8mm*; Footprint: Package_QFP:TQFP-64_14x14mm_P0.8mm; Datasheet: http://ww1.microchip.com/downloads/en/DeviceDoc/Atmel-8134-8-16-bit-Atmel-XMEGA-D3-Microcontroller_Datasheet.pdf; Description_: 32MHz, 128kB Flash, 8kB Boot, 8kB SRAM, 2kB EEPROM, JTAG, TQFP-64
pins: 1 PA3, 2 PA4, 3 PA5, 4 PA6, 5 PA7, 6 AREFB/PB0, 7 PB1, 8 PB2, 9 PB3, 10 PB4, 11 PB5, 12 PB6, 13 PB7, 14 GND, 15 VCC, 16 PC0, 17 PC1, 18 PC2, 19 PC3, 20 PC4, 21 PC5, 22 PC6, 23 PC7, 24 GND, 25 VCC, 26 PD0, 27 PD1, 28 PD2, 29 PD3, 30 PD4, 31 PD5, 32 PD6, 33 PD7, 34 GND, 35 VCC, 36 PE0, 37 PE1, 38 PE2, 39 PE3, 40 PE4, 41 PE5, 42 PE6, 43 PE7, 44 GND, 45 VCC, 46 PF0, 47 PF1, 48 PF2, 49 PF3, 50 PF4, 51 PF5, 52 GND, 53 VCC, 54 PF6, 55 PF7, 56 PDI_DATA, 57 ~{{RESET}/PDI_CLK}, 58 PR0/XTAL2, 59 PR1/XTAL1, 60 GND, 61 AVCC, 62 AREFA/PA0, 63 PA1, 64 PA2

## ATxmega128D3-M
designator *  value ATxmega128D3-M  Reference: U
32MHz, 128kB Flash, 8kB Boot, 8kB SRAM, 2kB EEPROM, JTAG, QFN-64; ki_keywords: AVR 8/16bit Microcontroller XMegaAVR; ki_fp_filters: QFN*1EP*9x9mm*P0.5mm*; Footprint: Package_DFN_QFN:QFN-64-1EP_9x9mm_P0.5mm_EP7.65x7.65mm; Datasheet: http://ww1.microchip.com/downloads/en/DeviceDoc/Atmel-8134-8-16-bit-Atmel-XMEGA-D3-Microcontroller_Datasheet.pdf; Description_: 32MHz, 128kB Flash, 8kB Boot, 8kB SRAM, 2kB EEPROM, JTAG, QFN-64
pins: 1 PA3, 2 PA4, 3 PA5, 4 PA6, 5 PA7, 6 AREFB/PB0, 7 PB1, 8 PB2, 9 PB3, 10 PB4, 11 PB5, 12 PB6, 13 PB7, 14 GND, 15 VCC, 16 PC0, 17 PC1, 18 PC2, 19 PC3, 20 PC4, 21 PC5, 22 PC6, 23 PC7, 24 GND, 25 VCC, 26 PD0, 27 PD1, 28 PD2, 29 PD3, 30 PD4, 31 PD5, 32 PD6, 33 PD7, 34 GND, 35 VCC, 36 PE0, 37 PE1, 38 PE2, 39 PE3, 40 PE4, 41 PE5, 42 PE6, 43 PE7, 44 GND, 45 VCC, 46 PF0, 47 PF1, 48 PF2, 49 PF3, 50 PF4, 51 PF5, 52 GND, 53 VCC, 54 PF6, 55 PF7, 56 PDI_DATA, 57 ~{{RESET}/PDI_CLK}, 58 PR0/XTAL2, 59 PR1/XTAL1, 60 GND, 61 AVCC, 62 AREFA/PA0, 63 PA1, 64 PA2, 65 GND

## ATxmega128D4-A
designator *  value ATxmega128D4-A  Reference: U
32MHz, 128kB Flash, 8kB Boot, 8kB SRAM, 2kB EEPROM, JTAG, TQFP-44; ki_keywords: AVR 8/16bit Microcontroller XMegaAVR; ki_fp_filters: TQFP*10x10mm*P0.8mm*; Footprint: Package_QFP:TQFP-44_10x10mm_P0.8mm; Datasheet: http://ww1.microchip.com/downloads/en/DeviceDoc/Atmel-8135-8-and-16-bit-AVR-microcontroller-ATxmega16D4-32D4-64D4-128D4_datasheet.pdf; Description_: 32MHz, 128kB Flash, 8kB Boot, 8kB SRAM, 2kB EEPROM, JTAG, TQFP-44
pins: 1 PA5, 2 PA6, 3 PA7, 4 AREF/PB0, 5 PB1, 6 PB2, 7 PB3, 8 GND, 9 VCC, 10 PC0, 11 PC1, 12 PC2, 13 PC3, 14 PC4, 15 PC5, 16 PC6, 17 PC7, 18 GND, 19 VCC, 20 PD0, 21 PD1, 22 PD2, 23 PD3, 24 PD4, 25 PD5, 26 PD6, 27 PD7, 28 PE0, 29 PE1, 30 GND, 31 VCC, 32 PE2, 33 PE3, 34 PDI_DATA, 35 ~{{RESET}/PDI_CLK}, 36 PR0/XTAL2, 37 PR1/XTAL1, 38 GND, 39 AVCC, 40 AREF/PA0, 41 PA1, 42 PA2, 43 PA3, 44 PA4

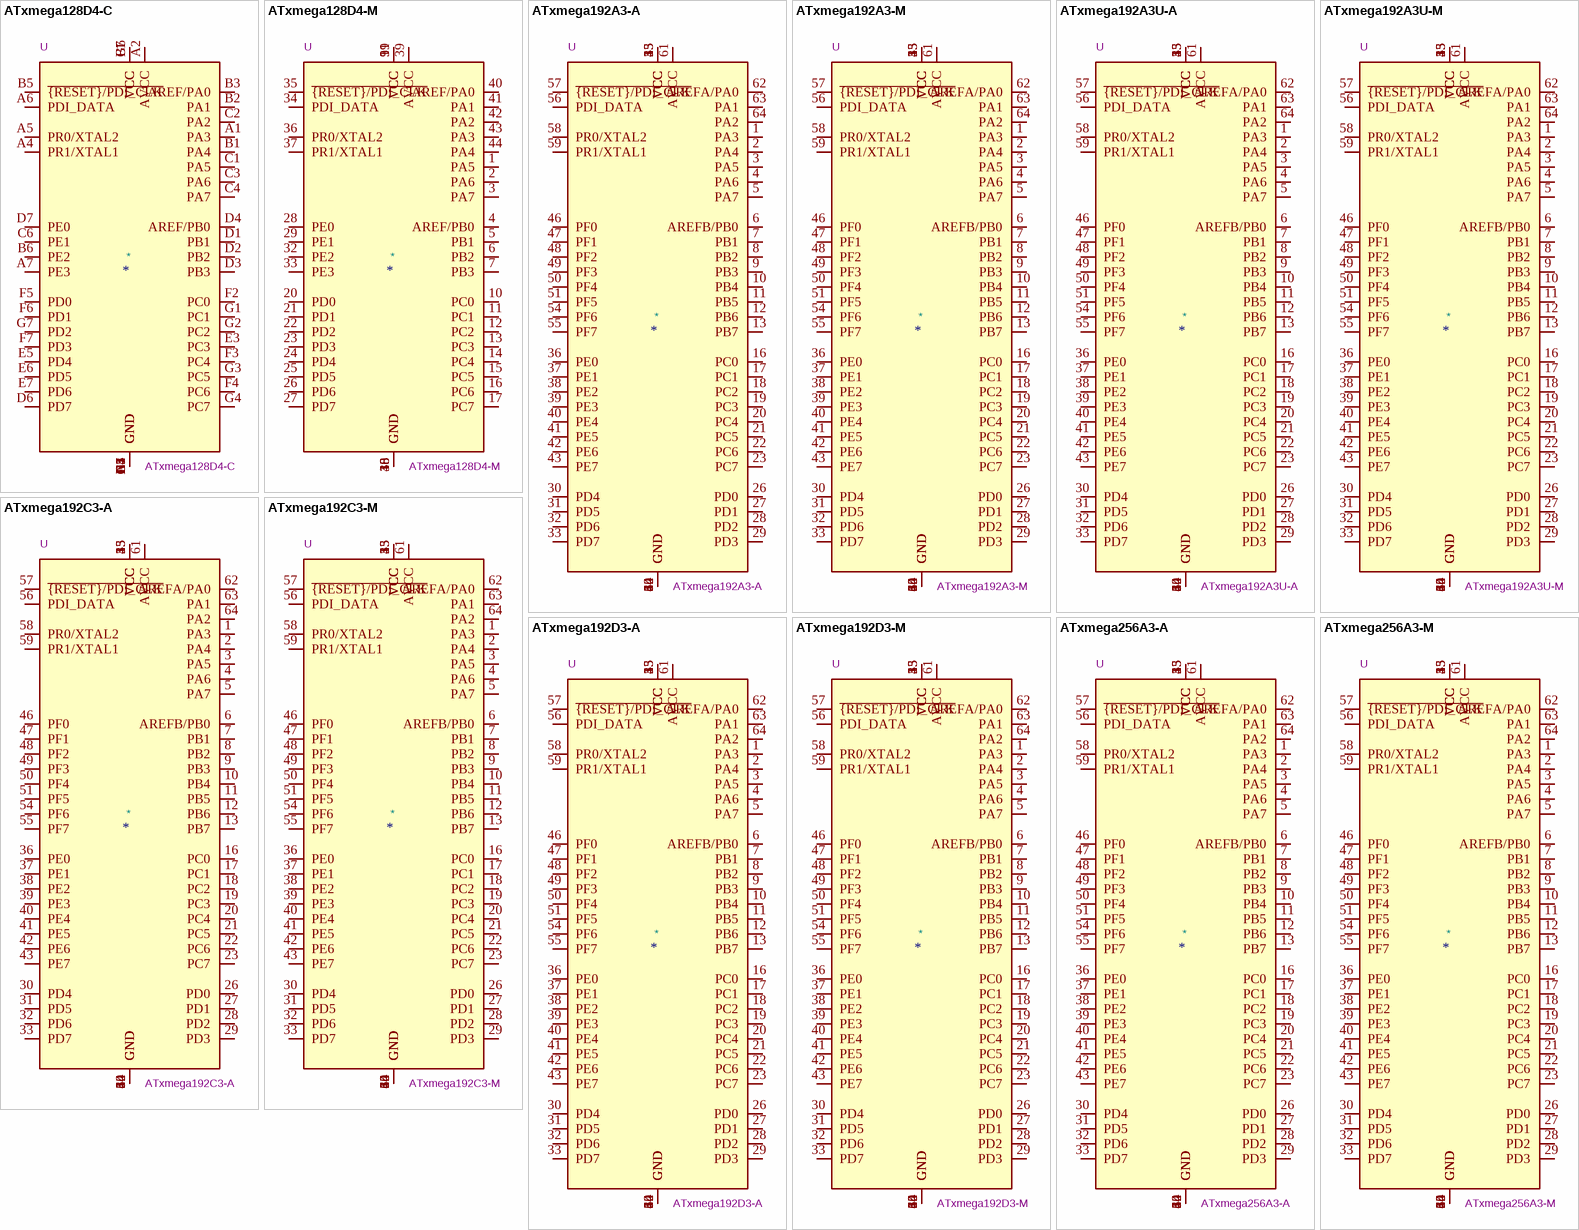
[diagram p38: symbols ATxmega128D4-C to ATxmega256A3-M]

## ATxmega128D4-C
designator *  value ATxmega128D4-C  Reference: U
32MHz, 128kB Flash, 8kB Boot, 8kB SRAM, 2kB EEPROM, JTAG, VFBGA-49; ki_keywords: AVR 8/16bit Microcontroller XMegaAVR; ki_fp_filters: VFBGA*5.0x5.0mm*Layout7x7*P0.65mm*; Footprint: Package_BGA:VFBGA-49_5.0x5.0mm_Layout7x7_P0.65mm; Datasheet: http://ww1.microchip.com/downloads/en/DeviceDoc/Atmel-8135-8-and-16-bit-AVR-microcontroller-ATxmega16D4-32D4-64D4-128D4_datasheet.pdf; Description_: 32MHz, 128kB Flash, 8kB Boot, 8kB SRAM, 2kB EEPROM, JTAG, VFBGA-49
pins: A1 PA3, A2 AVCC, A3 GND, A4 PR1/XTAL1, A5 PR0/XTAL2, A6 PDI_DATA, A7 PE3, B1 PA4, B2 PA1, B3 AREF/PA0, B4 GND, B5 ~{{RESET}/PDI_CLK}, B6 PE2, B7 VCC, C1 PA5, C2 PA2, C3 PA6, C4 PA7, C5 GND, C6 PE1, C7 GND, D1 PB1, D2 PB2, D3 PB3, D4 AREF/PB0, D5 GND, D6 PD7, D7 PE0, E1 GND, E2 GND, E3 PC3, E4 GND, E5 PD4, E6 PD5, E7 PD6, F1 VCC, F2 PC0, F3 PC4, F4 PC6, F5 PD0, F6 PD1, F7 PD3, G1 PC1, G2 PC2, G3 PC5, G4 PC7, G5 GND, G6 VCC, G7 PD2

## ATxmega128D4-M
designator *  value ATxmega128D4-M  Reference: U
32MHz, 128kB Flash, 8kB Boot, 8kB SRAM, 2kB EEPROM, JTAG, QFN-44; ki_keywords: AVR 8/16bit Microcontroller XMegaAVR; ki_fp_filters: QFN*1EP*7x7mm*P0.5mm*; Footprint: Package_DFN_QFN:QFN-44-1EP_7x7mm_P0.5mm_EP5.2x5.2mm; Datasheet: http://ww1.microchip.com/downloads/en/DeviceDoc/Atmel-8135-8-and-16-bit-AVR-microcontroller-ATxmega16D4-32D4-64D4-128D4_datasheet.pdf; Description_: 32MHz, 128kB Flash, 8kB Boot, 8kB SRAM, 2kB EEPROM, JTAG, QFN-44
pins: 1 PA5, 2 PA6, 3 PA7, 4 AREF/PB0, 5 PB1, 6 PB2, 7 PB3, 8 GND, 9 VCC, 10 PC0, 11 PC1, 12 PC2, 13 PC3, 14 PC4, 15 PC5, 16 PC6, 17 PC7, 18 GND, 19 VCC, 20 PD0, 21 PD1, 22 PD2, 23 PD3, 24 PD4, 25 PD5, 26 PD6, 27 PD7, 28 PE0, 29 PE1, 30 GND, 31 VCC, 32 PE2, 33 PE3, 34 PDI_DATA, 35 ~{{RESET}/PDI_CLK}, 36 PR0/XTAL2, 37 PR1/XTAL1, 38 GND, 39 AVCC, 40 AREF/PA0, 41 PA1, 42 PA2, 43 PA3, 44 PA4, 45 GND

## ATxmega192A3-A
designator *  value ATxmega192A3-A  Reference: U
32MHz, 192kB Flash, 8kB Boot, 16kB SRAM, 2kB EEPROM, JTAG, TQFP-64; ki_keywords: AVR 8/16bit Microcontroller XMegaAVR; ki_fp_filters: TQFP*14x14mm*P0.8mm*; Footprint: Package_QFP:TQFP-64_14x14mm_P0.8mm; Datasheet: http://ww1.microchip.com/downloads/en/DeviceDoc/Atmel-8068-8-and16-bit-AVR-XMEGA-A3-Microcontrollers_Datasheet.pdf; Description_: 32MHz, 192kB Flash, 8kB Boot, 16kB SRAM, 2kB EEPROM, JTAG, TQFP-64
pins: 1 PA3, 2 PA4, 3 PA5, 4 PA6, 5 PA7, 6 AREFB/PB0, 7 PB1, 8 PB2, 9 PB3, 10 PB4, 11 PB5, 12 PB6, 13 PB7, 14 GND, 15 VCC, 16 PC0, 17 PC1, 18 PC2, 19 PC3, 20 PC4, 21 PC5, 22 PC6, 23 PC7, 24 GND, 25 VCC, 26 PD0, 27 PD1, 28 PD2, 29 PD3, 30 PD4, 31 PD5, 32 PD6, 33 PD7, 34 GND, 35 VCC, 36 PE0, 37 PE1, 38 PE2, 39 PE3, 40 PE4, 41 PE5, 42 PE6, 43 PE7, 44 GND, 45 VCC, 46 PF0, 47 PF1, 48 PF2, 49 PF3, 50 PF4, 51 PF5, 52 GND, 53 VCC, 54 PF6, 55 PF7, 56 PDI_DATA, 57 ~{{RESET}/PDI_CLK}, 58 PR0/XTAL2, 59 PR1/XTAL1, 60 GND, 61 AVCC, 62 AREFA/PA0, 63 PA1, 64 PA2

## ATxmega192A3-M
designator *  value ATxmega192A3-M  Reference: U
32MHz, 192kB Flash, 8kB Boot, 16kB SRAM, 2kB EEPROM, JTAG, QFN-64; ki_keywords: AVR 8/16bit Microcontroller XMegaAVR; ki_fp_filters: QFN*1EP*9x9mm*P0.5mm*; Footprint: Package_DFN_QFN:QFN-64-1EP_9x9mm_P0.5mm_EP7.65x7.65mm; Datasheet: http://ww1.microchip.com/downloads/en/DeviceDoc/Atmel-8068-8-and16-bit-AVR-XMEGA-A3-Microcontrollers_Datasheet.pdf; Description_: 32MHz, 192kB Flash, 8kB Boot, 16kB SRAM, 2kB EEPROM, JTAG, QFN-64
pins: 1 PA3, 2 PA4, 3 PA5, 4 PA6, 5 PA7, 6 AREFB/PB0, 7 PB1, 8 PB2, 9 PB3, 10 PB4, 11 PB5, 12 PB6, 13 PB7, 14 GND, 15 VCC, 16 PC0, 17 PC1, 18 PC2, 19 PC3, 20 PC4, 21 PC5, 22 PC6, 23 PC7, 24 GND, 25 VCC, 26 PD0, 27 PD1, 28 PD2, 29 PD3, 30 PD4, 31 PD5, 32 PD6, 33 PD7, 34 GND, 35 VCC, 36 PE0, 37 PE1, 38 PE2, 39 PE3, 40 PE4, 41 PE5, 42 PE6, 43 PE7, 44 GND, 45 VCC, 46 PF0, 47 PF1, 48 PF2, 49 PF3, 50 PF4, 51 PF5, 52 GND, 53 VCC, 54 PF6, 55 PF7, 56 PDI_DATA, 57 ~{{RESET}/PDI_CLK}, 58 PR0/XTAL2, 59 PR1/XTAL1, 60 GND, 61 AVCC, 62 AREFA/PA0, 63 PA1, 64 PA2, 65 GND

## ATxmega192A3U-A
designator *  value ATxmega192A3U-A  Reference: U
32MHz, 192kB Flash, 8kB Boot, 16kB SRAM, 2kB EEPROM, JTAG, USB, TQFP-64; ki_keywords: AVR 8/16bit Microcontroller XMegaAVR; ki_fp_filters: TQFP*14x14mm*P0.8mm*; Footprint: Package_QFP:TQFP-64_14x14mm_P0.8mm; Datasheet: http://ww1.microchip.com/downloads/en/DeviceDoc/Atmel-8386-8-and-16-bit-AVR-Microcontroller-ATxmega64A3U-128A3U-192A3U-256A3U_datasheet.pdf; Description_: 32MHz, 192kB Flash, 8kB Boot, 16kB SRAM, 2kB EEPROM, JTAG, USB, TQFP-64
pins: 1 PA3, 2 PA4, 3 PA5, 4 PA6, 5 PA7, 6 AREFB/PB0, 7 PB1, 8 PB2, 9 PB3, 10 PB4, 11 PB5, 12 PB6, 13 PB7, 14 GND, 15 VCC, 16 PC0, 17 PC1, 18 PC2, 19 PC3, 20 PC4, 21 PC5, 22 PC6, 23 PC7, 24 GND, 25 VCC, 26 PD0, 27 PD1, 28 PD2, 29 PD3, 30 PD4, 31 PD5, 32 PD6, 33 PD7, 34 GND, 35 VCC, 36 PE0, 37 PE1, 38 PE2, 39 PE3, 40 PE4, 41 PE5, 42 PE6, 43 PE7, 44 GND, 45 VCC, 46 PF0, 47 PF1, 48 PF2, 49 PF3, 50 PF4, 51 PF5, 52 GND, 53 VCC, 54 PF6, 55 PF7, 56 PDI_DATA, 57 ~{{RESET}/PDI_CLK}, 58 PR0/XTAL2, 59 PR1/XTAL1, 60 GND, 61 AVCC, 62 AREFA/PA0, 63 PA1, 64 PA2

## ATxmega192A3U-M
designator *  value ATxmega192A3U-M  Reference: U
32MHz, 192kB Flash, 8kB Boot, 16kB SRAM, 2kB EEPROM, JTAG, USB, QFN-64; ki_keywords: AVR 8/16bit Microcontroller XMegaAVR; ki_fp_filters: QFN*1EP*9x9mm*P0.5mm*; Footprint: Package_DFN_QFN:QFN-64-1EP_9x9mm_P0.5mm_EP7.65x7.65mm; Datasheet: http://ww1.microchip.com/downloads/en/DeviceDoc/Atmel-8386-8-and-16-bit-AVR-Microcontroller-ATxmega64A3U-128A3U-192A3U-256A3U_datasheet.pdf; Description_: 32MHz, 192kB Flash, 8kB Boot, 16kB SRAM, 2kB EEPROM, JTAG, USB, QFN-64
pins: 1 PA3, 2 PA4, 3 PA5, 4 PA6, 5 PA7, 6 AREFB/PB0, 7 PB1, 8 PB2, 9 PB3, 10 PB4, 11 PB5, 12 PB6, 13 PB7, 14 GND, 15 VCC, 16 PC0, 17 PC1, 18 PC2, 19 PC3, 20 PC4, 21 PC5, 22 PC6, 23 PC7, 24 GND, 25 VCC, 26 PD0, 27 PD1, 28 PD2, 29 PD3, 30 PD4, 31 PD5, 32 PD6, 33 PD7, 34 GND, 35 VCC, 36 PE0, 37 PE1, 38 PE2, 39 PE3, 40 PE4, 41 PE5, 42 PE6, 43 PE7, 44 GND, 45 VCC, 46 PF0, 47 PF1, 48 PF2, 49 PF3, 50 PF4, 51 PF5, 52 GND, 53 VCC, 54 PF6, 55 PF7, 56 PDI_DATA, 57 ~{{RESET}/PDI_CLK}, 58 PR0/XTAL2, 59 PR1/XTAL1, 60 GND, 61 AVCC, 62 AREFA/PA0, 63 PA1, 64 PA2, 65 GND

## ATxmega192C3-A
designator *  value ATxmega192C3-A  Reference: U
32MHz, 192kB Flash, 8kB Boot, 16kB SRAM, 2kB EEPROM, JTAG, USB, TQFP-64; ki_keywords: AVR 8/16bit Microcontroller XMegaAVR; ki_fp_filters: TQFP*14x14mm*P0.8mm*; Footprint: Package_QFP:TQFP-64_14x14mm_P0.8mm; Datasheet: http://ww1.microchip.com/downloads/en/DeviceDoc/Atmel-8492-8-and-16-bit-AVR-microcontroller-ATxmega32C3_64C3_128C3_192C3_256C3_datasheet.pdf; Description_: 32MHz, 192kB Flash, 8kB Boot, 16kB SRAM, 2kB EEPROM, JTAG, USB, TQFP-64
pins: 1 PA3, 2 PA4, 3 PA5, 4 PA6, 5 PA7, 6 AREFB/PB0, 7 PB1, 8 PB2, 9 PB3, 10 PB4, 11 PB5, 12 PB6, 13 PB7, 14 GND, 15 VCC, 16 PC0, 17 PC1, 18 PC2, 19 PC3, 20 PC4, 21 PC5, 22 PC6, 23 PC7, 24 GND, 25 VCC, 26 PD0, 27 PD1, 28 PD2, 29 PD3, 30 PD4, 31 PD5, 32 PD6, 33 PD7, 34 GND, 35 VCC, 36 PE0, 37 PE1, 38 PE2, 39 PE3, 40 PE4, 41 PE5, 42 PE6, 43 PE7, 44 GND, 45 VCC, 46 PF0, 47 PF1, 48 PF2, 49 PF3, 50 PF4, 51 PF5, 52 GND, 53 VCC, 54 PF6, 55 PF7, 56 PDI_DATA, 57 ~{{RESET}/PDI_CLK}, 58 PR0/XTAL2, 59 PR1/XTAL1, 60 GND, 61 AVCC, 62 AREFA/PA0, 63 PA1, 64 PA2

## ATxmega192C3-M
designator *  value ATxmega192C3-M  Reference: U
32MHz, 192kB Flash, 8kB Boot, 16kB SRAM, 2kB EEPROM, JTAG, USB, QFN-64; ki_keywords: AVR 8/16bit Microcontroller XMegaAVR; ki_fp_filters: QFN*1EP*9x9mm*P0.5mm*; Footprint: Package_DFN_QFN:QFN-64-1EP_9x9mm_P0.5mm_EP7.65x7.65mm; Datasheet: http://ww1.microchip.com/downloads/en/DeviceDoc/Atmel-8492-8-and-16-bit-AVR-microcontroller-ATxmega32C3_64C3_128C3_192C3_256C3_datasheet.pdf; Description_: 32MHz, 192kB Flash, 8kB Boot, 16kB SRAM, 2kB EEPROM, JTAG, USB, QFN-64
pins: 1 PA3, 2 PA4, 3 PA5, 4 PA6, 5 PA7, 6 AREFB/PB0, 7 PB1, 8 PB2, 9 PB3, 10 PB4, 11 PB5, 12 PB6, 13 PB7, 14 GND, 15 VCC, 16 PC0, 17 PC1, 18 PC2, 19 PC3, 20 PC4, 21 PC5, 22 PC6, 23 PC7, 24 GND, 25 VCC, 26 PD0, 27 PD1, 28 PD2, 29 PD3, 30 PD4, 31 PD5, 32 PD6, 33 PD7, 34 GND, 35 VCC, 36 PE0, 37 PE1, 38 PE2, 39 PE3, 40 PE4, 41 PE5, 42 PE6, 43 PE7, 44 GND, 45 VCC, 46 PF0, 47 PF1, 48 PF2, 49 PF3, 50 PF4, 51 PF5, 52 GND, 53 VCC, 54 PF6, 55 PF7, 56 PDI_DATA, 57 ~{{RESET}/PDI_CLK}, 58 PR0/XTAL2, 59 PR1/XTAL1, 60 GND, 61 AVCC, 62 AREFA/PA0, 63 PA1, 64 PA2, 65 GND

## ATxmega192D3-A
designator *  value ATxmega192D3-A  Reference: U
32MHz, 192kB Flash, 8kB Boot, 16kB SRAM, 2kB EEPROM, JTAG, TQFP-64; ki_keywords: AVR 8/16bit Microcontroller XMegaAVR; ki_fp_filters: TQFP*14x14mm*P0.8mm*; Footprint: Package_QFP:TQFP-64_14x14mm_P0.8mm; Datasheet: http://ww1.microchip.com/downloads/en/DeviceDoc/Atmel-8134-8-16-bit-Atmel-XMEGA-D3-Microcontroller_Datasheet.pdf; Description_: 32MHz, 192kB Flash, 8kB Boot, 16kB SRAM, 2kB EEPROM, JTAG, TQFP-64
pins: 1 PA3, 2 PA4, 3 PA5, 4 PA6, 5 PA7, 6 AREFB/PB0, 7 PB1, 8 PB2, 9 PB3, 10 PB4, 11 PB5, 12 PB6, 13 PB7, 14 GND, 15 VCC, 16 PC0, 17 PC1, 18 PC2, 19 PC3, 20 PC4, 21 PC5, 22 PC6, 23 PC7, 24 GND, 25 VCC, 26 PD0, 27 PD1, 28 PD2, 29 PD3, 30 PD4, 31 PD5, 32 PD6, 33 PD7, 34 GND, 35 VCC, 36 PE0, 37 PE1, 38 PE2, 39 PE3, 40 PE4, 41 PE5, 42 PE6, 43 PE7, 44 GND, 45 VCC, 46 PF0, 47 PF1, 48 PF2, 49 PF3, 50 PF4, 51 PF5, 52 GND, 53 VCC, 54 PF6, 55 PF7, 56 PDI_DATA, 57 ~{{RESET}/PDI_CLK}, 58 PR0/XTAL2, 59 PR1/XTAL1, 60 GND, 61 AVCC, 62 AREFA/PA0, 63 PA1, 64 PA2

## ATxmega192D3-M
designator *  value ATxmega192D3-M  Reference: U
32MHz, 192kB Flash, 8kB Boot, 16kB SRAM, 2kB EEPROM, JTAG, QFN-64; ki_keywords: AVR 8/16bit Microcontroller XMegaAVR; ki_fp_filters: QFN*1EP*9x9mm*P0.5mm*; Footprint: Package_DFN_QFN:QFN-64-1EP_9x9mm_P0.5mm_EP7.65x7.65mm; Datasheet: http://ww1.microchip.com/downloads/en/DeviceDoc/Atmel-8134-8-16-bit-Atmel-XMEGA-D3-Microcontroller_Datasheet.pdf; Description_: 32MHz, 192kB Flash, 8kB Boot, 16kB SRAM, 2kB EEPROM, JTAG, QFN-64
pins: 1 PA3, 2 PA4, 3 PA5, 4 PA6, 5 PA7, 6 AREFB/PB0, 7 PB1, 8 PB2, 9 PB3, 10 PB4, 11 PB5, 12 PB6, 13 PB7, 14 GND, 15 VCC, 16 PC0, 17 PC1, 18 PC2, 19 PC3, 20 PC4, 21 PC5, 22 PC6, 23 PC7, 24 GND, 25 VCC, 26 PD0, 27 PD1, 28 PD2, 29 PD3, 30 PD4, 31 PD5, 32 PD6, 33 PD7, 34 GND, 35 VCC, 36 PE0, 37 PE1, 38 PE2, 39 PE3, 40 PE4, 41 PE5, 42 PE6, 43 PE7, 44 GND, 45 VCC, 46 PF0, 47 PF1, 48 PF2, 49 PF3, 50 PF4, 51 PF5, 52 GND, 53 VCC, 54 PF6, 55 PF7, 56 PDI_DATA, 57 ~{{RESET}/PDI_CLK}, 58 PR0/XTAL2, 59 PR1/XTAL1, 60 GND, 61 AVCC, 62 AREFA/PA0, 63 PA1, 64 PA2, 65 GND

## ATxmega256A3-A
designator *  value ATxmega256A3-A  Reference: U
32MHz, 256kB Flash, 8kB Boot, 16kB SRAM, 4kB EEPROM, JTAG, TQFP-64; ki_keywords: AVR 8/16bit Microcontroller XMegaAVR; ki_fp_filters: TQFP*14x14mm*P0.8mm*; Footprint: Package_QFP:TQFP-64_14x14mm_P0.8mm; Datasheet: http://ww1.microchip.com/downloads/en/DeviceDoc/Atmel-8068-8-and16-bit-AVR-XMEGA-A3-Microcontrollers_Datasheet.pdf; Description_: 32MHz, 256kB Flash, 8kB Boot, 16kB SRAM, 4kB EEPROM, JTAG, TQFP-64
pins: 1 PA3, 2 PA4, 3 PA5, 4 PA6, 5 PA7, 6 AREFB/PB0, 7 PB1, 8 PB2, 9 PB3, 10 PB4, 11 PB5, 12 PB6, 13 PB7, 14 GND, 15 VCC, 16 PC0, 17 PC1, 18 PC2, 19 PC3, 20 PC4, 21 PC5, 22 PC6, 23 PC7, 24 GND, 25 VCC, 26 PD0, 27 PD1, 28 PD2, 29 PD3, 30 PD4, 31 PD5, 32 PD6, 33 PD7, 34 GND, 35 VCC, 36 PE0, 37 PE1, 38 PE2, 39 PE3, 40 PE4, 41 PE5, 42 PE6, 43 PE7, 44 GND, 45 VCC, 46 PF0, 47 PF1, 48 PF2, 49 PF3, 50 PF4, 51 PF5, 52 GND, 53 VCC, 54 PF6, 55 PF7, 56 PDI_DATA, 57 ~{{RESET}/PDI_CLK}, 58 PR0/XTAL2, 59 PR1/XTAL1, 60 GND, 61 AVCC, 62 AREFA/PA0, 63 PA1, 64 PA2

## ATxmega256A3-M
designator *  value ATxmega256A3-M  Reference: U
32MHz, 256kB Flash, 8kB Boot, 16kB SRAM, 4kB EEPROM, JTAG, QFN-64; ki_keywords: AVR 8/16bit Microcontroller XMegaAVR; ki_fp_filters: QFN*1EP*9x9mm*P0.5mm*; Footprint: Package_DFN_QFN:QFN-64-1EP_9x9mm_P0.5mm_EP7.65x7.65mm; Datasheet: http://ww1.microchip.com/downloads/en/DeviceDoc/Atmel-8068-8-and16-bit-AVR-XMEGA-A3-Microcontrollers_Datasheet.pdf; Description_: 32MHz, 256kB Flash, 8kB Boot, 16kB SRAM, 4kB EEPROM, JTAG, QFN-64
pins: 1 PA3, 2 PA4, 3 PA5, 4 PA6, 5 PA7, 6 AREFB/PB0, 7 PB1, 8 PB2, 9 PB3, 10 PB4, 11 PB5, 12 PB6, 13 PB7, 14 GND, 15 VCC, 16 PC0, 17 PC1, 18 PC2, 19 PC3, 20 PC4, 21 PC5, 22 PC6, 23 PC7, 24 GND, 25 VCC, 26 PD0, 27 PD1, 28 PD2, 29 PD3, 30 PD4, 31 PD5, 32 PD6, 33 PD7, 34 GND, 35 VCC, 36 PE0, 37 PE1, 38 PE2, 39 PE3, 40 PE4, 41 PE5, 42 PE6, 43 PE7, 44 GND, 45 VCC, 46 PF0, 47 PF1, 48 PF2, 49 PF3, 50 PF4, 51 PF5, 52 GND, 53 VCC, 54 PF6, 55 PF7, 56 PDI_DATA, 57 ~{{RESET}/PDI_CLK}, 58 PR0/XTAL2, 59 PR1/XTAL1, 60 GND, 61 AVCC, 62 AREFA/PA0, 63 PA1, 64 PA2, 65 GND

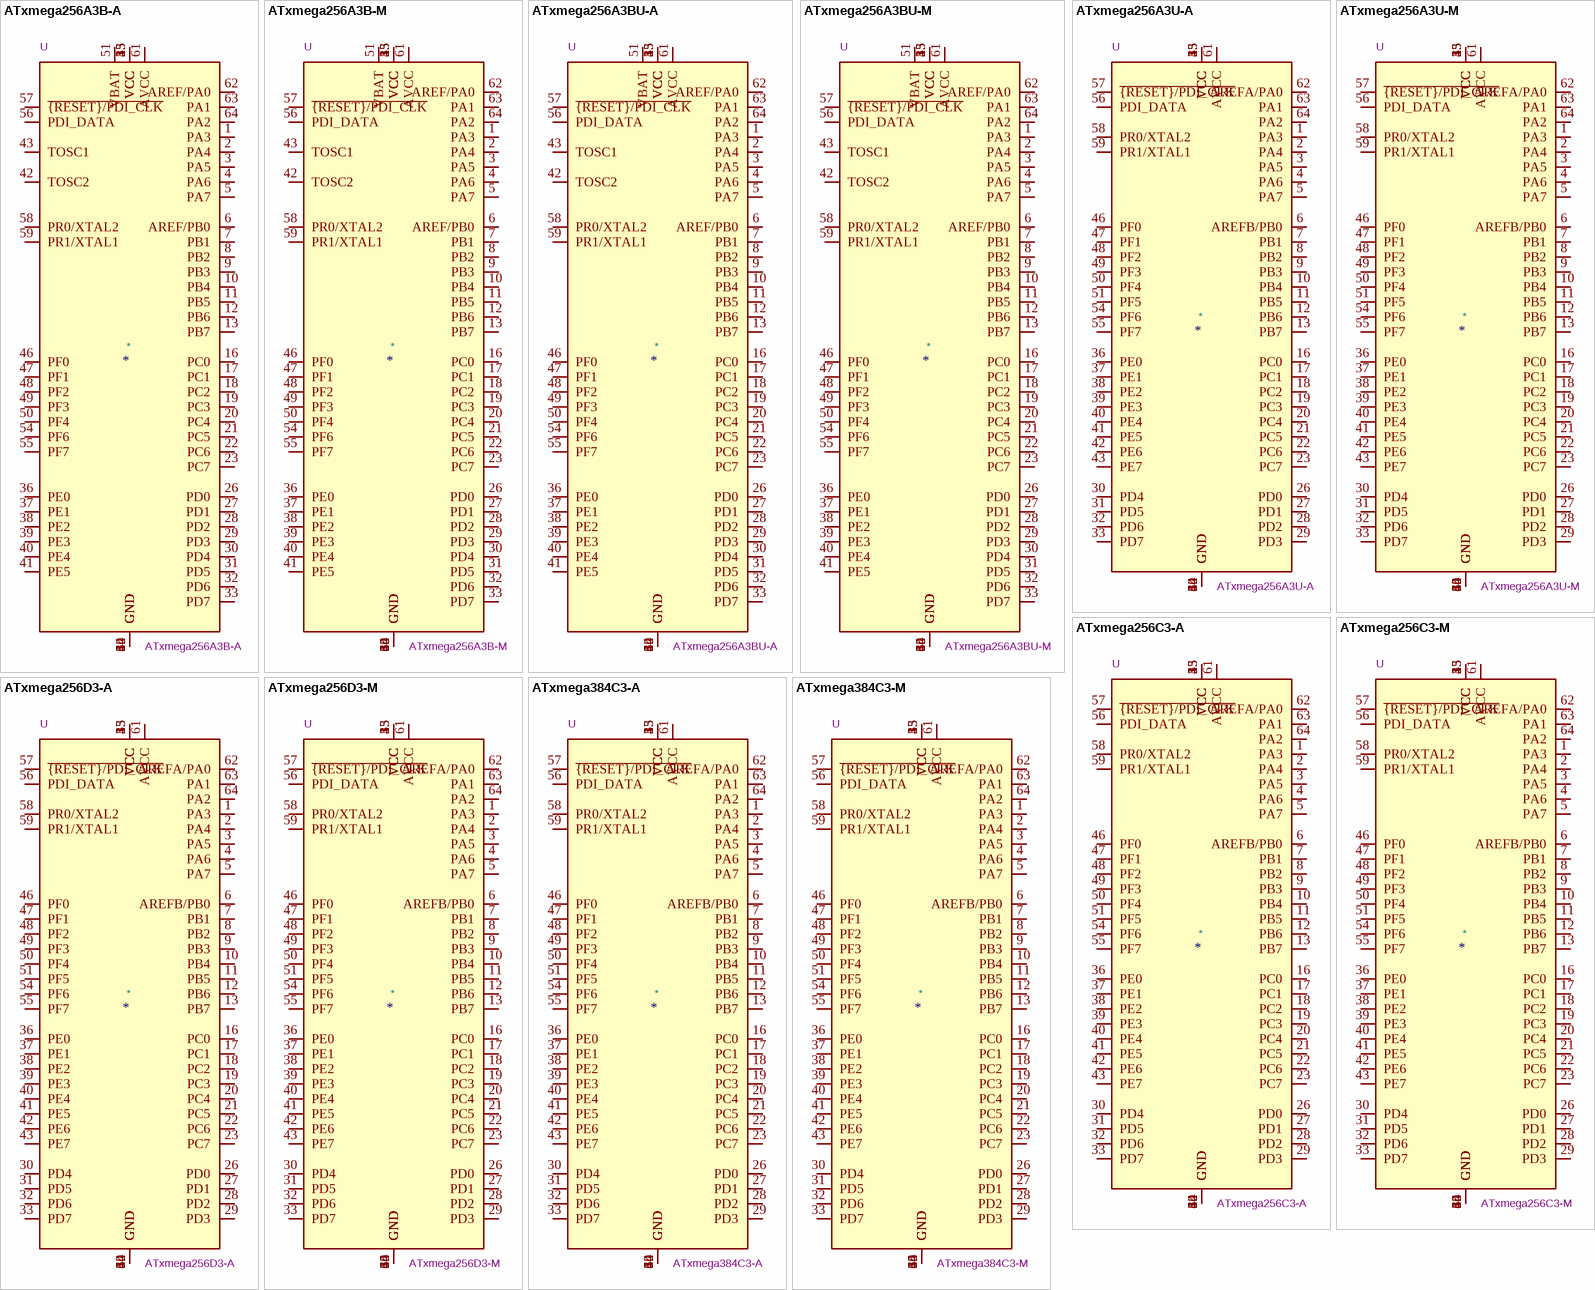
[diagram p39: symbols ATxmega256A3B-A to ATxmega384C3-M]

## ATxmega256A3B-A
designator *  value ATxmega256A3B-A  Reference: U
32MHz, 256kB Flash, 8kB Boot, 16kB SRAM, 4kB EEPROM, JTAG, TQFP-64; ki_keywords: AVR 8/16bit Microcontroller XMegaAVR; ki_fp_filters: TQFP*14x14mm*P0.8mm*; Footprint: Package_QFP:TQFP-64_14x14mm_P0.8mm; Datasheet: http://ww1.microchip.com/downloads/en/DeviceDoc/Atmel-8116-8-and-16-bit-AVR-XMEGA-A3B-Microcontroller_Datasheet.pdf; Description_: 32MHz, 256kB Flash, 8kB Boot, 16kB SRAM, 4kB EEPROM, JTAG, TQFP-64
pins: 1 PA3, 2 PA4, 3 PA5, 4 PA6, 5 PA7, 6 AREF/PB0, 7 PB1, 8 PB2, 9 PB3, 10 PB4, 11 PB5, 12 PB6, 13 PB7, 14 GND, 15 VCC, 16 PC0, 17 PC1, 18 PC2, 19 PC3, 20 PC4, 21 PC5, 22 PC6, 23 PC7, 24 GND, 25 VCC, 26 PD0, 27 PD1, 28 PD2, 29 PD3, 30 PD4, 31 PD5, 32 PD6, 33 PD7, 34 GND, 35 VCC, 36 PE0, 37 PE1, 38 PE2, 39 PE3, 40 PE4, 41 PE5, 42 TOSC2, 43 TOSC1, 44 GND, 45 VCC, 46 PF0, 47 PF1, 48 PF2, 49 PF3, 50 PF4, 51 VBAT, 52 GND, 53 VCC, 54 PF6, 55 PF7, 56 PDI_DATA, 57 ~{{RESET}/PDI_CLK}, 58 PR0/XTAL2, 59 PR1/XTAL1, 60 GND, 61 AVCC, 62 AREF/PA0, 63 PA1, 64 PA2

## ATxmega256A3B-M
designator *  value ATxmega256A3B-M  Reference: U
32MHz, 256kB Flash, 8kB Boot, 16kB SRAM, 4kB EEPROM, JTAG, QFN-64; ki_keywords: AVR 8/16bit Microcontroller XMegaAVR; ki_fp_filters: QFN*1EP*9x9mm*P0.5mm*; Footprint: Package_DFN_QFN:QFN-64-1EP_9x9mm_P0.5mm_EP7.65x7.65mm; Datasheet: http://ww1.microchip.com/downloads/en/DeviceDoc/Atmel-8116-8-and-16-bit-AVR-XMEGA-A3B-Microcontroller_Datasheet.pdf; Description_: 32MHz, 256kB Flash, 8kB Boot, 16kB SRAM, 4kB EEPROM, JTAG, QFN-64
pins: 1 PA3, 2 PA4, 3 PA5, 4 PA6, 5 PA7, 6 AREF/PB0, 7 PB1, 8 PB2, 9 PB3, 10 PB4, 11 PB5, 12 PB6, 13 PB7, 14 GND, 15 VCC, 16 PC0, 17 PC1, 18 PC2, 19 PC3, 20 PC4, 21 PC5, 22 PC6, 23 PC7, 24 GND, 25 VCC, 26 PD0, 27 PD1, 28 PD2, 29 PD3, 30 PD4, 31 PD5, 32 PD6, 33 PD7, 34 GND, 35 VCC, 36 PE0, 37 PE1, 38 PE2, 39 PE3, 40 PE4, 41 PE5, 42 TOSC2, 43 TOSC1, 44 GND, 45 VCC, 46 PF0, 47 PF1, 48 PF2, 49 PF3, 50 PF4, 51 VBAT, 52 GND, 53 VCC, 54 PF6, 55 PF7, 56 PDI_DATA, 57 ~{{RESET}/PDI_CLK}, 58 PR0/XTAL2, 59 PR1/XTAL1, 60 GND, 61 AVCC, 62 AREF/PA0, 63 PA1, 64 PA2, 65 GND

## ATxmega256A3BU-A
designator *  value ATxmega256A3BU-A  Reference: U
32MHz, 256kB Flash, 8kB Boot, 16kB SRAM, 4kB EEPROM, JTAG, USB, TQFP-64; ki_keywords: AVR 8/16bit Microcontroller XMegaAVR; ki_fp_filters: TQFP*14x14mm*P0.8mm*; Footprint: Package_QFP:TQFP-64_14x14mm_P0.8mm; Datasheet: http://ww1.microchip.com/downloads/en/DeviceDoc/Atmel-8362-8-and-16bit-AVR-microcontroller-ATxmega256A3BU_datasheet.pdf; Description_: 32MHz, 256kB Flash, 8kB Boot, 16kB SRAM, 4kB EEPROM, JTAG, USB, TQFP-64
pins: 1 PA3, 2 PA4, 3 PA5, 4 PA6, 5 PA7, 6 AREF/PB0, 7 PB1, 8 PB2, 9 PB3, 10 PB4, 11 PB5, 12 PB6, 13 PB7, 14 GND, 15 VCC, 16 PC0, 17 PC1, 18 PC2, 19 PC3, 20 PC4, 21 PC5, 22 PC6, 23 PC7, 24 GND, 25 VCC, 26 PD0, 27 PD1, 28 PD2, 29 PD3, 30 PD4, 31 PD5, 32 PD6, 33 PD7, 34 GND, 35 VCC, 36 PE0, 37 PE1, 38 PE2, 39 PE3, 40 PE4, 41 PE5, 42 TOSC2, 43 TOSC1, 44 GND, 45 VCC, 46 PF0, 47 PF1, 48 PF2, 49 PF3, 50 PF4, 51 VBAT, 52 GND, 53 VCC, 54 PF6, 55 PF7, 56 PDI_DATA, 57 ~{{RESET}/PDI_CLK}, 58 PR0/XTAL2, 59 PR1/XTAL1, 60 GND, 61 AVCC, 62 AREF/PA0, 63 PA1, 64 PA2

## ATxmega256A3BU-M
designator *  value ATxmega256A3BU-M  Reference: U
32MHz, 256kB Flash, 8kB Boot, 16kB SRAM, 4kB EEPROM, JTAG, USB, QFN-64; ki_keywords: AVR 8/16bit Microcontroller XMegaAVR; ki_fp_filters: QFN*1EP*9x9mm*P0.5mm*; Footprint: Package_DFN_QFN:QFN-64-1EP_9x9mm_P0.5mm_EP7.65x7.65mm; Datasheet: http://ww1.microchip.com/downloads/en/DeviceDoc/Atmel-8362-8-and-16bit-AVR-microcontroller-ATxmega256A3BU_datasheet.pdf; Description_: 32MHz, 256kB Flash, 8kB Boot, 16kB SRAM, 4kB EEPROM, JTAG, USB, QFN-64
pins: 1 PA3, 2 PA4, 3 PA5, 4 PA6, 5 PA7, 6 AREF/PB0, 7 PB1, 8 PB2, 9 PB3, 10 PB4, 11 PB5, 12 PB6, 13 PB7, 14 GND, 15 VCC, 16 PC0, 17 PC1, 18 PC2, 19 PC3, 20 PC4, 21 PC5, 22 PC6, 23 PC7, 24 GND, 25 VCC, 26 PD0, 27 PD1, 28 PD2, 29 PD3, 30 PD4, 31 PD5, 32 PD6, 33 PD7, 34 GND, 35 VCC, 36 PE0, 37 PE1, 38 PE2, 39 PE3, 40 PE4, 41 PE5, 42 TOSC2, 43 TOSC1, 44 GND, 45 VCC, 46 PF0, 47 PF1, 48 PF2, 49 PF3, 50 PF4, 51 VBAT, 52 GND, 53 VCC, 54 PF6, 55 PF7, 56 PDI_DATA, 57 ~{{RESET}/PDI_CLK}, 58 PR0/XTAL2, 59 PR1/XTAL1, 60 GND, 61 AVCC, 62 AREF/PA0, 63 PA1, 64 PA2, 65 GND

## ATxmega256A3U-A
designator *  value ATxmega256A3U-A  Reference: U
32MHz, 256kB Flash, 8kB Boot, 16kB SRAM, 4kB EEPROM, JTAG, USB, TQFP-64; ki_keywords: AVR 8/16bit Microcontroller XMegaAVR; ki_fp_filters: TQFP*14x14mm*P0.8mm*; Footprint: Package_QFP:TQFP-64_14x14mm_P0.8mm; Datasheet: http://ww1.microchip.com/downloads/en/DeviceDoc/Atmel-8386-8-and-16-bit-AVR-Microcontroller-ATxmega64A3U-128A3U-192A3U-256A3U_datasheet.pdf; Description_: 32MHz, 256kB Flash, 8kB Boot, 16kB SRAM, 4kB EEPROM, JTAG, USB, TQFP-64
pins: 1 PA3, 2 PA4, 3 PA5, 4 PA6, 5 PA7, 6 AREFB/PB0, 7 PB1, 8 PB2, 9 PB3, 10 PB4, 11 PB5, 12 PB6, 13 PB7, 14 GND, 15 VCC, 16 PC0, 17 PC1, 18 PC2, 19 PC3, 20 PC4, 21 PC5, 22 PC6, 23 PC7, 24 GND, 25 VCC, 26 PD0, 27 PD1, 28 PD2, 29 PD3, 30 PD4, 31 PD5, 32 PD6, 33 PD7, 34 GND, 35 VCC, 36 PE0, 37 PE1, 38 PE2, 39 PE3, 40 PE4, 41 PE5, 42 PE6, 43 PE7, 44 GND, 45 VCC, 46 PF0, 47 PF1, 48 PF2, 49 PF3, 50 PF4, 51 PF5, 52 GND, 53 VCC, 54 PF6, 55 PF7, 56 PDI_DATA, 57 ~{{RESET}/PDI_CLK}, 58 PR0/XTAL2, 59 PR1/XTAL1, 60 GND, 61 AVCC, 62 AREFA/PA0, 63 PA1, 64 PA2

## ATxmega256A3U-M
designator *  value ATxmega256A3U-M  Reference: U
32MHz, 256kB Flash, 8kB Boot, 16kB SRAM, 4kB EEPROM, JTAG, USB, QFN-64; ki_keywords: AVR 8/16bit Microcontroller XMegaAVR; ki_fp_filters: QFN*1EP*9x9mm*P0.5mm*; Footprint: Package_DFN_QFN:QFN-64-1EP_9x9mm_P0.5mm_EP7.65x7.65mm; Datasheet: http://ww1.microchip.com/downloads/en/DeviceDoc/Atmel-8386-8-and-16-bit-AVR-Microcontroller-ATxmega64A3U-128A3U-192A3U-256A3U_datasheet.pdf; Description_: 32MHz, 256kB Flash, 8kB Boot, 16kB SRAM, 4kB EEPROM, JTAG, USB, QFN-64
pins: 1 PA3, 2 PA4, 3 PA5, 4 PA6, 5 PA7, 6 AREFB/PB0, 7 PB1, 8 PB2, 9 PB3, 10 PB4, 11 PB5, 12 PB6, 13 PB7, 14 GND, 15 VCC, 16 PC0, 17 PC1, 18 PC2, 19 PC3, 20 PC4, 21 PC5, 22 PC6, 23 PC7, 24 GND, 25 VCC, 26 PD0, 27 PD1, 28 PD2, 29 PD3, 30 PD4, 31 PD5, 32 PD6, 33 PD7, 34 GND, 35 VCC, 36 PE0, 37 PE1, 38 PE2, 39 PE3, 40 PE4, 41 PE5, 42 PE6, 43 PE7, 44 GND, 45 VCC, 46 PF0, 47 PF1, 48 PF2, 49 PF3, 50 PF4, 51 PF5, 52 GND, 53 VCC, 54 PF6, 55 PF7, 56 PDI_DATA, 57 ~{{RESET}/PDI_CLK}, 58 PR0/XTAL2, 59 PR1/XTAL1, 60 GND, 61 AVCC, 62 AREFA/PA0, 63 PA1, 64 PA2, 65 GND

## ATxmega256C3-A
designator *  value ATxmega256C3-A  Reference: U
32MHz, 256kB Flash, 8kB Boot, 16kB SRAM, 4kB EEPROM, JTAG, USB, TQFP-64; ki_keywords: AVR 8/16bit Microcontroller XMegaAVR; ki_fp_filters: TQFP*14x14mm*P0.8mm*; Footprint: Package_QFP:TQFP-64_14x14mm_P0.8mm; Datasheet: http://ww1.microchip.com/downloads/en/DeviceDoc/Atmel-8492-8-and-16-bit-AVR-microcontroller-ATxmega32C3_64C3_128C3_192C3_256C3_datasheet.pdf; Description_: 32MHz, 256kB Flash, 8kB Boot, 16kB SRAM, 4kB EEPROM, JTAG, USB, TQFP-64
pins: 1 PA3, 2 PA4, 3 PA5, 4 PA6, 5 PA7, 6 AREFB/PB0, 7 PB1, 8 PB2, 9 PB3, 10 PB4, 11 PB5, 12 PB6, 13 PB7, 14 GND, 15 VCC, 16 PC0, 17 PC1, 18 PC2, 19 PC3, 20 PC4, 21 PC5, 22 PC6, 23 PC7, 24 GND, 25 VCC, 26 PD0, 27 PD1, 28 PD2, 29 PD3, 30 PD4, 31 PD5, 32 PD6, 33 PD7, 34 GND, 35 VCC, 36 PE0, 37 PE1, 38 PE2, 39 PE3, 40 PE4, 41 PE5, 42 PE6, 43 PE7, 44 GND, 45 VCC, 46 PF0, 47 PF1, 48 PF2, 49 PF3, 50 PF4, 51 PF5, 52 GND, 53 VCC, 54 PF6, 55 PF7, 56 PDI_DATA, 57 ~{{RESET}/PDI_CLK}, 58 PR0/XTAL2, 59 PR1/XTAL1, 60 GND, 61 AVCC, 62 AREFA/PA0, 63 PA1, 64 PA2

## ATxmega256C3-M
designator *  value ATxmega256C3-M  Reference: U
32MHz, 256kB Flash, 8kB Boot, 16kB SRAM, 4kB EEPROM, JTAG, USB, QFN-64; ki_keywords: AVR 8/16bit Microcontroller XMegaAVR; ki_fp_filters: QFN*1EP*9x9mm*P0.5mm*; Footprint: Package_DFN_QFN:QFN-64-1EP_9x9mm_P0.5mm_EP7.65x7.65mm; Datasheet: http://ww1.microchip.com/downloads/en/DeviceDoc/Atmel-8492-8-and-16-bit-AVR-microcontroller-ATxmega32C3_64C3_128C3_192C3_256C3_datasheet.pdf; Description_: 32MHz, 256kB Flash, 8kB Boot, 16kB SRAM, 4kB EEPROM, JTAG, USB, QFN-64
pins: 1 PA3, 2 PA4, 3 PA5, 4 PA6, 5 PA7, 6 AREFB/PB0, 7 PB1, 8 PB2, 9 PB3, 10 PB4, 11 PB5, 12 PB6, 13 PB7, 14 GND, 15 VCC, 16 PC0, 17 PC1, 18 PC2, 19 PC3, 20 PC4, 21 PC5, 22 PC6, 23 PC7, 24 GND, 25 VCC, 26 PD0, 27 PD1, 28 PD2, 29 PD3, 30 PD4, 31 PD5, 32 PD6, 33 PD7, 34 GND, 35 VCC, 36 PE0, 37 PE1, 38 PE2, 39 PE3, 40 PE4, 41 PE5, 42 PE6, 43 PE7, 44 GND, 45 VCC, 46 PF0, 47 PF1, 48 PF2, 49 PF3, 50 PF4, 51 PF5, 52 GND, 53 VCC, 54 PF6, 55 PF7, 56 PDI_DATA, 57 ~{{RESET}/PDI_CLK}, 58 PR0/XTAL2, 59 PR1/XTAL1, 60 GND, 61 AVCC, 62 AREFA/PA0, 63 PA1, 64 PA2, 65 GND

## ATxmega256D3-A
designator *  value ATxmega256D3-A  Reference: U
32MHz, 256kB Flash, 8kB Boot, 16kB SRAM, 4kB EEPROM, JTAG, TQFP-64; ki_keywords: AVR 8/16bit Microcontroller XMegaAVR; ki_fp_filters: TQFP*14x14mm*P0.8mm*; Footprint: Package_QFP:TQFP-64_14x14mm_P0.8mm; Datasheet: http://ww1.microchip.com/downloads/en/DeviceDoc/Atmel-8134-8-16-bit-Atmel-XMEGA-D3-Microcontroller_Datasheet.pdf; Description_: 32MHz, 256kB Flash, 8kB Boot, 16kB SRAM, 4kB EEPROM, JTAG, TQFP-64
pins: 1 PA3, 2 PA4, 3 PA5, 4 PA6, 5 PA7, 6 AREFB/PB0, 7 PB1, 8 PB2, 9 PB3, 10 PB4, 11 PB5, 12 PB6, 13 PB7, 14 GND, 15 VCC, 16 PC0, 17 PC1, 18 PC2, 19 PC3, 20 PC4, 21 PC5, 22 PC6, 23 PC7, 24 GND, 25 VCC, 26 PD0, 27 PD1, 28 PD2, 29 PD3, 30 PD4, 31 PD5, 32 PD6, 33 PD7, 34 GND, 35 VCC, 36 PE0, 37 PE1, 38 PE2, 39 PE3, 40 PE4, 41 PE5, 42 PE6, 43 PE7, 44 GND, 45 VCC, 46 PF0, 47 PF1, 48 PF2, 49 PF3, 50 PF4, 51 PF5, 52 GND, 53 VCC, 54 PF6, 55 PF7, 56 PDI_DATA, 57 ~{{RESET}/PDI_CLK}, 58 PR0/XTAL2, 59 PR1/XTAL1, 60 GND, 61 AVCC, 62 AREFA/PA0, 63 PA1, 64 PA2

## ATxmega256D3-M
designator *  value ATxmega256D3-M  Reference: U
32MHz, 256kB Flash, 8kB Boot, 16kB SRAM, 4kB EEPROM, JTAG, QFN-64; ki_keywords: AVR 8/16bit Microcontroller XMegaAVR; ki_fp_filters: QFN*1EP*9x9mm*P0.5mm*; Footprint: Package_DFN_QFN:QFN-64-1EP_9x9mm_P0.5mm_EP7.65x7.65mm; Datasheet: http://ww1.microchip.com/downloads/en/DeviceDoc/Atmel-8134-8-16-bit-Atmel-XMEGA-D3-Microcontroller_Datasheet.pdf; Description_: 32MHz, 256kB Flash, 8kB Boot, 16kB SRAM, 4kB EEPROM, JTAG, QFN-64
pins: 1 PA3, 2 PA4, 3 PA5, 4 PA6, 5 PA7, 6 AREFB/PB0, 7 PB1, 8 PB2, 9 PB3, 10 PB4, 11 PB5, 12 PB6, 13 PB7, 14 GND, 15 VCC, 16 PC0, 17 PC1, 18 PC2, 19 PC3, 20 PC4, 21 PC5, 22 PC6, 23 PC7, 24 GND, 25 VCC, 26 PD0, 27 PD1, 28 PD2, 29 PD3, 30 PD4, 31 PD5, 32 PD6, 33 PD7, 34 GND, 35 VCC, 36 PE0, 37 PE1, 38 PE2, 39 PE3, 40 PE4, 41 PE5, 42 PE6, 43 PE7, 44 GND, 45 VCC, 46 PF0, 47 PF1, 48 PF2, 49 PF3, 50 PF4, 51 PF5, 52 GND, 53 VCC, 54 PF6, 55 PF7, 56 PDI_DATA, 57 ~{{RESET}/PDI_CLK}, 58 PR0/XTAL2, 59 PR1/XTAL1, 60 GND, 61 AVCC, 62 AREFA/PA0, 63 PA1, 64 PA2, 65 GND

## ATxmega384C3-A
designator *  value ATxmega384C3-A  Reference: U
32MHz, 384kB Flash, 8kB Boot, 32kB SRAM, 4kB EEPROM, JTAG, USB, TQFP-64; ki_keywords: AVR 8/16bit Microcontroller XMegaAVR; ki_fp_filters: TQFP*14x14mm*P0.8mm*; Footprint: Package_QFP:TQFP-64_14x14mm_P0.8mm; Datasheet: http://ww1.microchip.com/downloads/en/DeviceDoc/Atmel-8361-8-and-16-bit-AVR-XMEGA-Microcontrollers-ATxmega384C3_Datasheet.pdf; Description_: 32MHz, 384kB Flash, 8kB Boot, 32kB SRAM, 4kB EEPROM, JTAG, USB, TQFP-64
pins: 1 PA3, 2 PA4, 3 PA5, 4 PA6, 5 PA7, 6 AREFB/PB0, 7 PB1, 8 PB2, 9 PB3, 10 PB4, 11 PB5, 12 PB6, 13 PB7, 14 GND, 15 VCC, 16 PC0, 17 PC1, 18 PC2, 19 PC3, 20 PC4, 21 PC5, 22 PC6, 23 PC7, 24 GND, 25 VCC, 26 PD0, 27 PD1, 28 PD2, 29 PD3, 30 PD4, 31 PD5, 32 PD6, 33 PD7, 34 GND, 35 VCC, 36 PE0, 37 PE1, 38 PE2, 39 PE3, 40 PE4, 41 PE5, 42 PE6, 43 PE7, 44 GND, 45 VCC, 46 PF0, 47 PF1, 48 PF2, 49 PF3, 50 PF4, 51 PF5, 52 GND, 53 VCC, 54 PF6, 55 PF7, 56 PDI_DATA, 57 ~{{RESET}/PDI_CLK}, 58 PR0/XTAL2, 59 PR1/XTAL1, 60 GND, 61 AVCC, 62 AREFA/PA0, 63 PA1, 64 PA2

## ATxmega384C3-M
designator *  value ATxmega384C3-M  Reference: U
32MHz, 384kB Flash, 8kB Boot, 32kB SRAM, 4kB EEPROM, JTAG, USB, QFN-64; ki_keywords: AVR 8/16bit Microcontroller XMegaAVR; ki_fp_filters: QFN*1EP*9x9mm*P0.5mm*; Footprint: Package_DFN_QFN:QFN-64-1EP_9x9mm_P0.5mm_EP7.65x7.65mm; Datasheet: http://ww1.microchip.com/downloads/en/DeviceDoc/Atmel-8361-8-and-16-bit-AVR-XMEGA-Microcontrollers-ATxmega384C3_Datasheet.pdf; Description_: 32MHz, 384kB Flash, 8kB Boot, 32kB SRAM, 4kB EEPROM, JTAG, USB, QFN-64
pins: 1 PA3, 2 PA4, 3 PA5, 4 PA6, 5 PA7, 6 AREFB/PB0, 7 PB1, 8 PB2, 9 PB3, 10 PB4, 11 PB5, 12 PB6, 13 PB7, 14 GND, 15 VCC, 16 PC0, 17 PC1, 18 PC2, 19 PC3, 20 PC4, 21 PC5, 22 PC6, 23 PC7, 24 GND, 25 VCC, 26 PD0, 27 PD1, 28 PD2, 29 PD3, 30 PD4, 31 PD5, 32 PD6, 33 PD7, 34 GND, 35 VCC, 36 PE0, 37 PE1, 38 PE2, 39 PE3, 40 PE4, 41 PE5, 42 PE6, 43 PE7, 44 GND, 45 VCC, 46 PF0, 47 PF1, 48 PF2, 49 PF3, 50 PF4, 51 PF5, 52 GND, 53 VCC, 54 PF6, 55 PF7, 56 PDI_DATA, 57 ~{{RESET}/PDI_CLK}, 58 PR0/XTAL2, 59 PR1/XTAL1, 60 GND, 61 AVCC, 62 AREFA/PA0, 63 PA1, 64 PA2, 65 GND

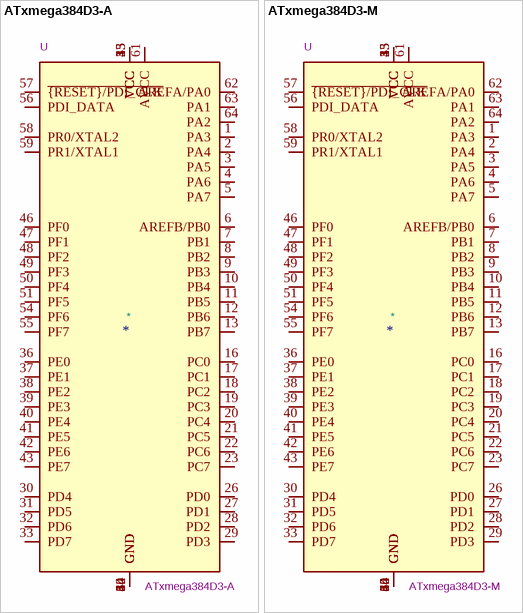
[diagram p40: symbols ATxmega384D3-A to ATxmega384D3-M]